# Altium integrated library Freescale Semiconductor DSC.IntLib: 124 symbols (part 7 of 7)
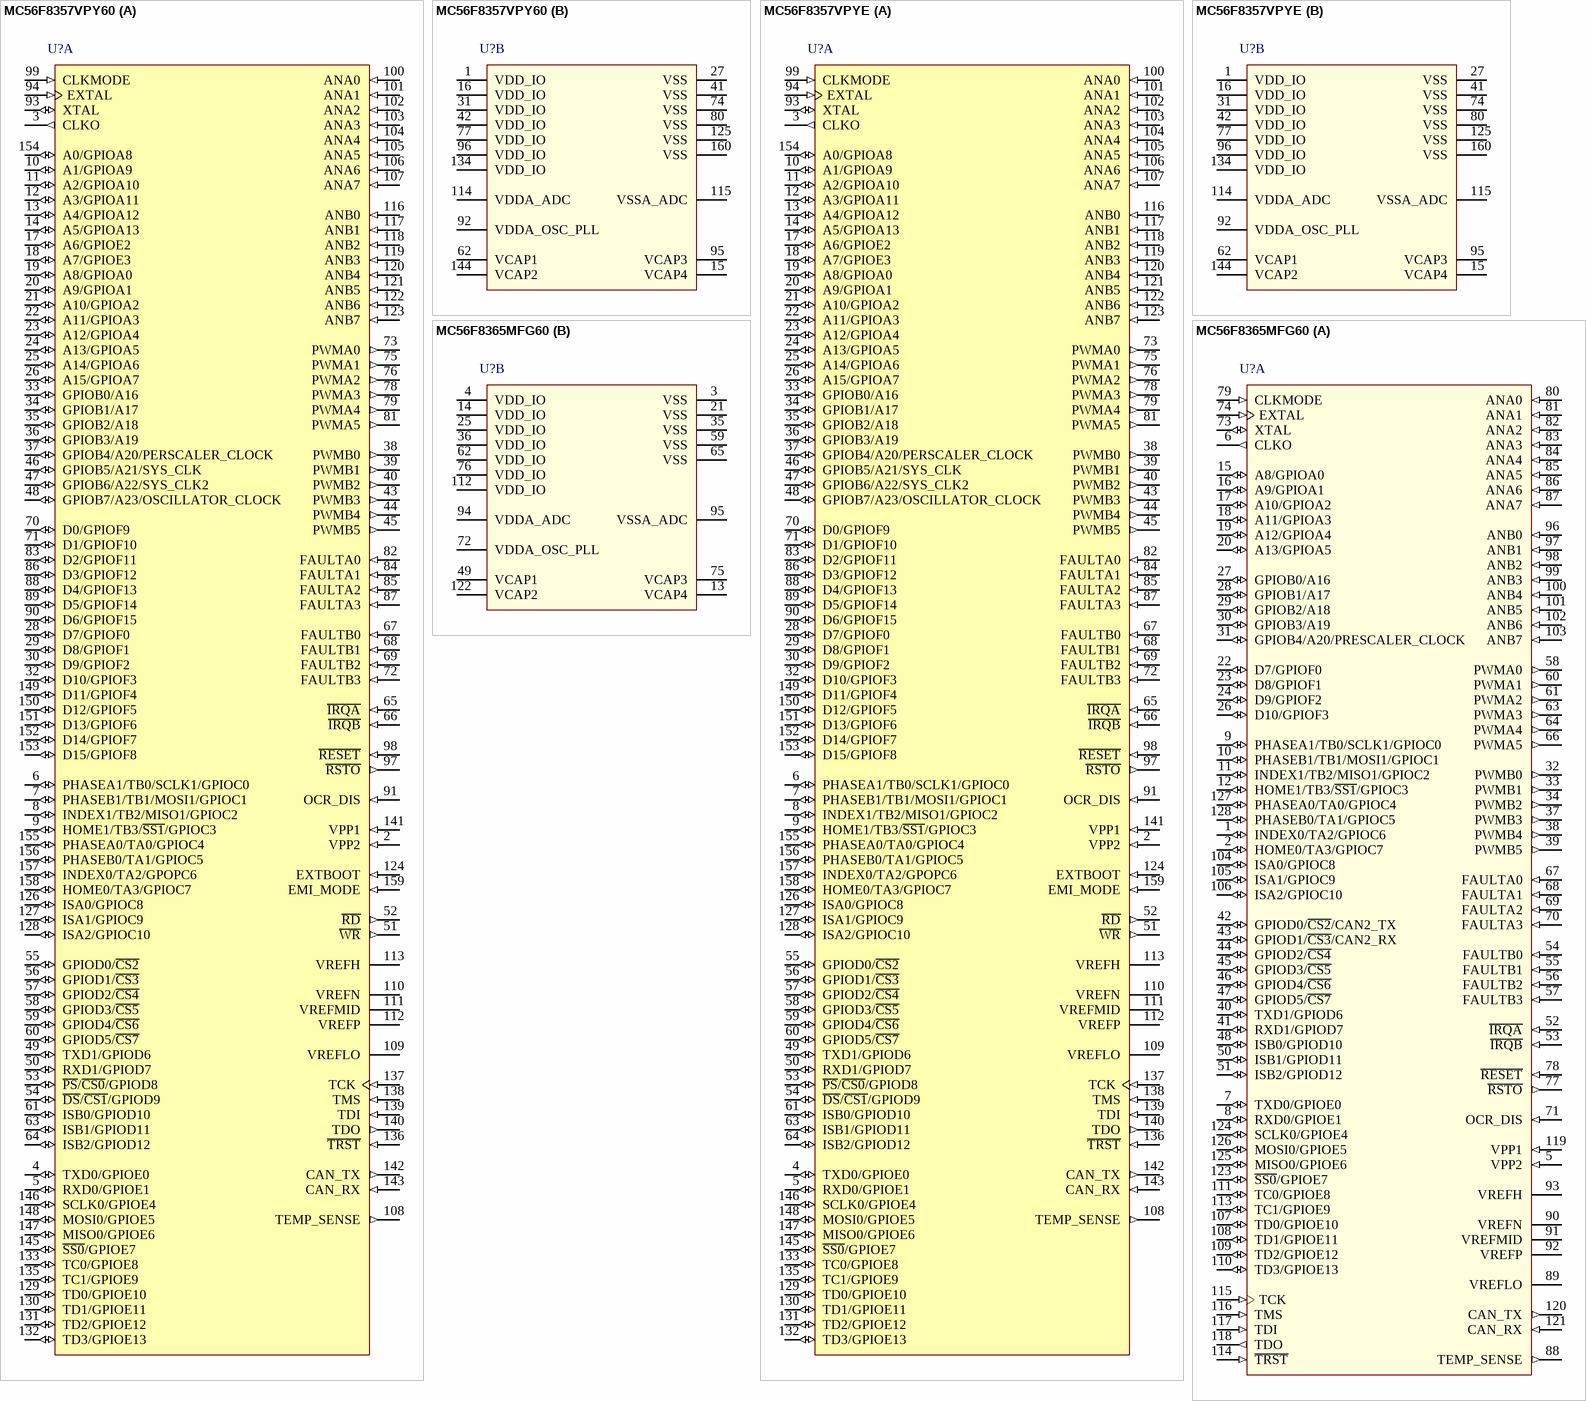
[diagram p40: symbols MC56F8357VPY60 to MC56F8365MFG60]

## MC56F8357VPYE
designator U?
16-Bit Digital Signal Controller, 56800E Family,  60 MHz, 20KB RAM, 256KB Flash, 3.0–3.6 V, -40° to + 105° C, 160-Pin LQFP; DatasheetVersion: rev15, Jan-2007; PackageVersion: rev7, Jan-2002; PackageReference: 1259-01; PackageDescription: 160-Pin Thin Quad Flat Pack 0.5 mm Pitch; ComponentLink1Description: Manufacturer URL; ComponentLink1URL: http://www.freescale.com/; ComponentLink2Description: Datasheet; ComponentLink2URL: http://cache.freescale.com/files/dsp/doc/data_sheet/MC56F8357.pdf?fpsp=1
footprint 1259-01_N (Thin QFP, 160-Leads, Body 24x24mm, Pitch 0.5mm, IPC Medium Density)
footprint 1259-01_L (Thin QFP, 160-Leads, Body 24x24mm, Pitch 0.5mm, IPC High Density)
footprint 1259-01_M (Thin QFP, 160-Leads, Body 24x24mm, Pitch 0.5mm, IPC Low Density)
part A pins: 2 VPP2 (in), 3 CLKO (out), 4 TXD0/GPIOE0 (io), 5 RXD0/GPIOE1 (io), 6 PHASEA1/TB0/SCLK1/GPIOC0 (io), 7 PHASEB1/TB1/MOSI1/GPIOC1 (io), 8 INDEX1/TB2/MISO1/GPIOC2 (io), 9 HOME1/TB3/~{SS1}/GPIOC3 (io), 10 A1/GPIOA9 (io), 11 A2/GPIOA10 (io), 12 A3/GPIOA11 (io), 13 A4/GPIOA12 (io), 14 A5/GPIOA13 (io), 17 A6/GPIOE2 (io), 18 A7/GPIOE3 (io), 19 A8/GPIOA0 (io), 20 A9/GPIOA1 (io), 21 A10/GPIOA2 (io), 22 A11/GPIOA3 (io), 23 A12/GPIOA4 (io), 24 A13/GPIOA5 (io), 25 A14/GPIOA6 (io), 26 A15/GPIOA7 (io), 28 D7/GPIOF0 (io), 29 D8/GPIOF1 (io), 30 D9/GPIOF2 (io), 32 D10/GPIOF3 (io), 33 GPIOB0/A16 (io), 34 GPIOB1/A17 (io), 35 GPIOB2/A18 (io), 36 GPIOB3/A19 (io), 37 GPIOB4/A20/PERSCALER_CLOCK (io), 38 PWMB0 (out), 39 PWMB1 (out), 40 PWMB2 (out), 43 PWMB3 (out), 44 PWMB4 (out), 45 PWMB5 (out), 46 GPIOB5/A21/SYS_CLK (io), 47 GPIOB6/A22/SYS_CLK2 (io), 48 GPIOB7/A23/OSCILLATOR_CLOCK (io), 49 TXD1/GPIOD6 (io), 50 RXD1/GPIOD7 (io), 51 ~{WR} (out), 52 ~{RD} (out), 53 ~{PS}/~{CS0}/GPIOD8 (io), 54 ~{DS}/~{CS1}/GPIOD9 (io), 55 GPIOD0/~{CS2} (io), 56 GPIOD1/~{CS3} (io), 57 GPIOD2/~{CS4} (io), 58 GPIOD3/~{CS5} (io), 59 GPIOD4/~{CS6} (io), 60 GPIOD5/~{CS7} (io), 61 ISB0/GPIOD10 (io), 63 ISB1/GPIOD11 (io), 64 ISB2/GPIOD12 (io), 65 ~{IRQA} (in), 66 ~{IRQB} (in), 67 FAULTB0 (in), 68 FAULTB1 (in), 69 FAULTB2 (in), 70 D0/GPIOF9 (io), 71 D1/GPIOF10 (io), 72 FAULTB3 (in), 73 PWMA0 (out), 75 PWMA1 (out), 76 PWMA2 (out), 78 PWMA3 (out), 79 PWMA4 (out), 81 PWMA5 (out), 82 FAULTA0 (in), 83 D2/GPIOF11 (io), 84 FAULTA1 (in), 85 FAULTA2 (in), 86 D3/GPIOF12 (io), 87 FAULTA3 (in), 88 D4/GPIOF13 (io), 89 D5/GPIOF14 (io), 90 D6/GPIOF15 (io), 91 OCR_DIS (in), 93 XTAL (io), 94 EXTAL (in), 97 ~{RSTO} (out), 98 ~{RESET} (in), 99 CLKMODE (in), 100 ANA0 (in), 101 ANA1 (in), 102 ANA2 (in), 103 ANA3 (in), 104 ANA4 (in), 105 ANA5 (in), 106 ANA6 (in), 107 ANA7 (in), 108 TEMP_SENSE (out), 109 VREFLO (power), 110 VREFN (power), 111 VREFMID (power), 112 VREFP (power), 113 VREFH (power), 116 ANB0 (in), 117 ANB1 (in), 118 ANB2 (in), 119 ANB3 (in), 120 ANB4 (in), 121 ANB5 (in), 122 ANB6 (in), 123 ANB7 (in), 124 EXTBOOT (in), 126 ISA0/GPIOC8 (io), 127 ISA1/GPIOC9 (io), 128 ISA2/GPIOC10 (io), 129 TD0/GPIOE10 (io), 130 TD1/GPIOE11 (io), 131 TD2/GPIOE12 (io), 132 TD3/GPIOE13 (io), 133 TC0/GPIOE8 (io), 135 TC1/GPIOE9 (io), 136 ~{TRST} (in), 137 TCK (in), 138 TMS (in), 139 TDI (in), 140 TDO (out), 141 VPP1 (in), 142 CAN_TX (out), 143 CAN_RX (in), 145 ~{SS0}/GPIOE7 (io), 146 SCLK0/GPIOE4 (io), 147 MISO0/GPIOE6 (io), 148 MOSI0/GPIOE5 (io), 149 D11/GPIOF4 (io), 150 D12/GPIOF5 (io), 151 D13/GPIOF6 (io), 152 D14/GPIOF7 (io), 153 D15/GPIOF8 (io), 154 A0/GPIOA8 (io), 155 PHASEA0/TA0/GPIOC4 (io), 156 PHASEB0/TA1/GPIOC5 (io), 157 INDEX0/TA2/GPOPC6 (io), 158 HOME0/TA3/GPIOC7 (io), 159 EMI_MODE (in)
part B pins: 1 VDD_IO (power), 15 VCAP4 (power), 16 VDD_IO (power), 27 VSS (power), 31 VDD_IO (power), 41 VSS (power), 42 VDD_IO (power), 62 VCAP1 (power), 74 VSS (power), 77 VDD_IO (power), 80 VSS (power), 92 VDDA_OSC_PLL (power), 95 VCAP3 (power), 96 VDD_IO (power), 114 VDDA_ADC (power), 115 VSSA_ADC (power), 125 VSS (power), 134 VDD_IO (power), 144 VCAP2 (power), 160 VSS (power)

## MC56F8365MFG60
designator U?
16-Bit Digital Signal Controller, 56800E Family,  60 MHz, 36KB RAM, 512KB Flash, 3.0–3.6 V, -40° to + 125° C, 128-Pin LQFP; DatasheetVersion: rev8, Nov-2009; PackageVersion: 12/12/1994; PackageReference: 1129-01; PackageDescription: 128-Pin Thin Quad Flat Pack Rectangular 0.5 mm Pitch; ComponentLink1Description: Manufacturer URL; ComponentLink1URL: http://www.freescale.com/; ComponentLink2Description: Datasheet; ComponentLink2URL: http://cache.freescale.com/files/dsp/doc/data_sheet/MC56F8365.pdf?fpsp=1
footprint 1129-01_N (Thin QFP, 128-Leads, Body 20x14 mm, Pitch 0.5mm, IPC Medium Density)
footprint 1129-01_L (Thin QFP, 128-Leads, Body 20x14 mm, Pitch 0.5mm, IPC High Density)
footprint 1129-01_M (Thin QFP, 128-Leads, Body 20x14 mm, Pitch 0.5mm, IPC Low Density)
part A pins: 1 INDEX0/TA2/GPIOC6 (io), 2 HOME0/TA3/GPIOC7 (io), 5 VPP2 (in), 6 CLKO (out), 7 TXD0/GPIOE0 (io), 8 RXD0/GPIOE1 (io), 9 PHASEA1/TB0/SCLK1/GPIOC0 (io), 10 PHASEB1/TB1/MOSI1/GPIOC1 (io), 11 INDEX1/TB2/MISO1/GPIOC2 (io), 12 HOME1/TB3/~{SS1}/GPIOC3 (io), 15 A8/GPIOA0 (io), 16 A9/GPIOA1 (io), 17 A10/GPIOA2 (io), 18 A11/GPIOA3 (io), 19 A12/GPIOA4 (io), 20 A13/GPIOA5 (io), 22 D7/GPIOF0 (io), 23 D8/GPIOF1 (io), 24 D9/GPIOF2 (io), 26 D10/GPIOF3 (io), 27 GPIOB0/A16 (io), 28 GPIOB1/A17 (io), 29 GPIOB2/A18 (io), 30 GPIOB3/A19 (io), 31 GPIOB4/A20/PRESCALER_CLOCK (io), 32 PWMB0 (out), 33 PWMB1 (out), 34 PWMB2 (out), 37 PWMB3 (out), 38 PWMB4 (out), 39 PWMB5 (out), 40 TXD1/GPIOD6 (io), 41 RXD1/GPIOD7 (io), 42 GPIOD0/~{CS2}/CAN2_TX (io), 43 GPIOD1/~{CS3}/CAN2_RX (io), 44 GPIOD2/~{CS4} (io), 45 GPIOD3/~{CS5} (io), 46 GPIOD4/~{CS6} (io), 47 GPIOD5/~{CS7} (io), 48 ISB0/GPIOD10 (io), 50 ISB1/GPIOD11 (io), 51 ISB2/GPIOD12 (io), 52 ~{IRQA} (in), 53 ~{IRQB} (in), 54 FAULTB0 (in), 55 FAULTB1 (in), 56 FAULTB2 (in), 57 FAULTB3 (in), 58 PWMA0 (out), 60 PWMA1 (out), 61 PWMA2 (out), 63 PWMA3 (out), 64 PWMA4 (out), 66 PWMA5 (out), 67 FAULTA0 (in), 68 FAULTA1 (in), 69 FAULTA2 (in), 70 FAULTA3 (in), 71 OCR_DIS (in), 73 XTAL (io), 74 EXTAL (in), 77 ~{RSTO} (out), 78 ~{RESET} (in), 79 CLKMODE (in), 80 ANA0 (in), 81 ANA1 (in), 82 ANA2 (in), 83 ANA3 (in), 84 ANA4 (in), 85 ANA5 (in), 86 ANA6 (in), 87 ANA7 (in), 88 TEMP_SENSE (out), 89 VREFLO (power), 90 VREFN (power), 91 VREFMID (power), 92 VREFP (power), 93 VREFH (power), 96 ANB0 (in), 97 ANB1 (in), 98 ANB2 (in), 99 ANB3 (in), 100 ANB4 (in), 101 ANB5 (in), 102 ANB6 (in), 103 ANB7 (in), 104 ISA0/GPIOC8 (io), 105 ISA1/GPIOC9 (io), 106 ISA2/GPIOC10 (io), 107 TD0/GPIOE10 (io), 108 TD1/GPIOE11 (io), 109 TD2/GPIOE12 (io), 110 TD3/GPIOE13 (io), 111 TC0/GPIOE8 (io), 113 TC1/GPIOE9 (io), 114 ~{TRST} (in), 115 TCK (in), 116 TMS (in), 117 TDI (in), 118 TDO (out), 119 VPP1 (in), 120 CAN_TX (out), 121 CAN_RX (in), 123 ~{SS0}/GPIOE7 (io), 124 SCLK0/GPIOE4 (io), 125 MISO0/GPIOE6 (io), 126 MOSI0/GPIOE5 (io), 127 PHASEA0/TA0/GPIOC4 (io), 128 PHASEB0/TA1/GPIOC5 (io)
part B pins: 3 VSS (power), 4 VDD_IO (power), 13 VCAP4 (power), 14 VDD_IO (power), 21 VSS (power), 25 VDD_IO (power), 35 VSS (power), 36 VDD_IO (power), 49 VCAP1 (power), 59 VSS (power), 62 VDD_IO (power), 65 VSS (power), 72 VDDA_OSC_PLL (power), 75 VCAP3 (power), 76 VDD_IO (power), 94 VDDA_ADC (power), 95 VSSA_ADC (power), 112 VDD_IO (power), 122 VCAP2 (power)

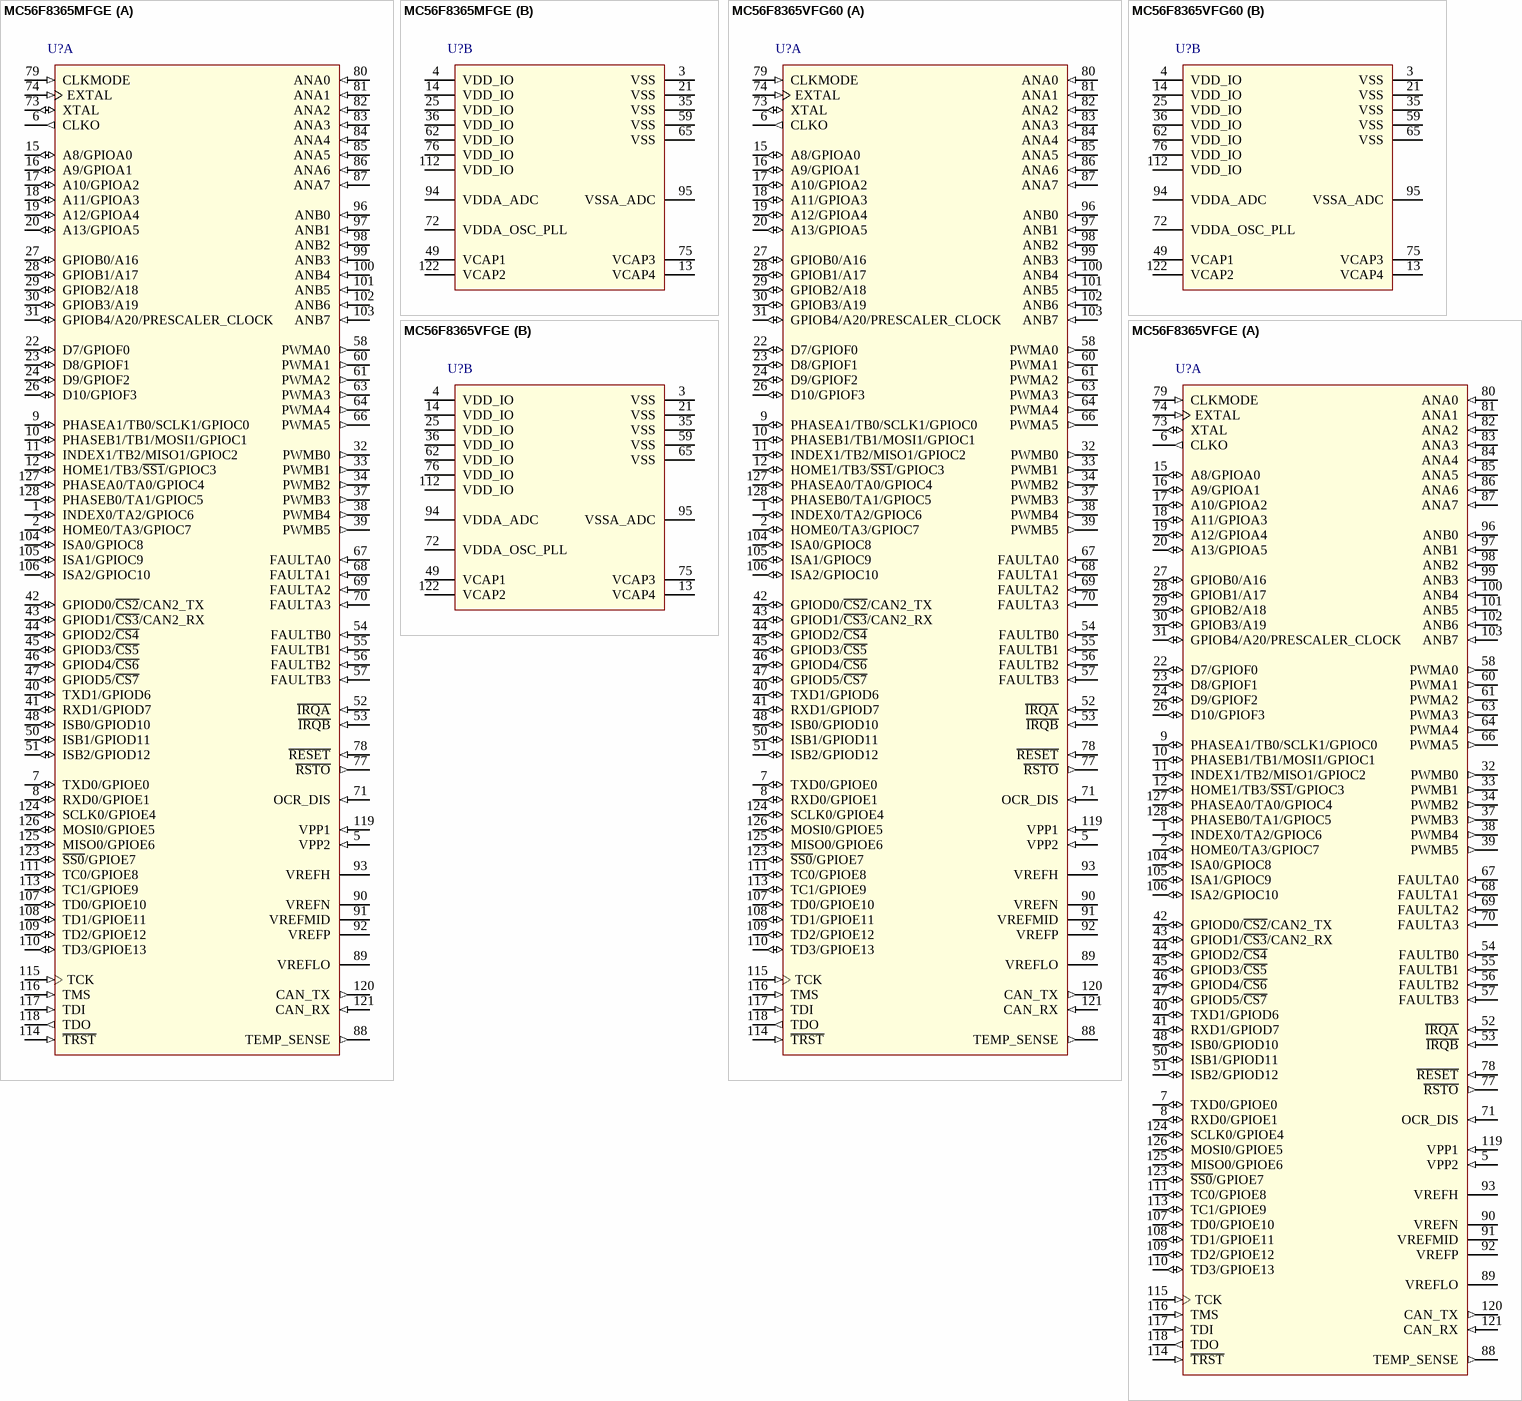
[diagram p30: symbols MC56F8365MFGE to MC56F8365VFGE]

## MC56F8365MFGE
designator U?
16-Bit Digital Signal Controller, 56800E Family,  60 MHz, 36KB RAM, 512KB Flash, 3.0–3.6 V, -40° to + 125° C, 128-Pin LQFP; DatasheetVersion: rev8, Nov-2009; PackageVersion: 12/12/1994; PackageReference: 1129-01; PackageDescription: 128-Pin Thin Quad Flat Pack Rectangular 0.5 mm Pitch; ComponentLink1Description: Manufacturer URL; ComponentLink1URL: http://www.freescale.com/; ComponentLink2Description: Datasheet; ComponentLink2URL: http://cache.freescale.com/files/dsp/doc/data_sheet/MC56F8365.pdf?fpsp=1
footprint 1129-01_N (Thin QFP, 128-Leads, Body 20x14 mm, Pitch 0.5mm, IPC Medium Density)
footprint 1129-01_L (Thin QFP, 128-Leads, Body 20x14 mm, Pitch 0.5mm, IPC High Density)
footprint 1129-01_M (Thin QFP, 128-Leads, Body 20x14 mm, Pitch 0.5mm, IPC Low Density)
part A pins: 1 INDEX0/TA2/GPIOC6 (io), 2 HOME0/TA3/GPIOC7 (io), 5 VPP2 (in), 6 CLKO (out), 7 TXD0/GPIOE0 (io), 8 RXD0/GPIOE1 (io), 9 PHASEA1/TB0/SCLK1/GPIOC0 (io), 10 PHASEB1/TB1/MOSI1/GPIOC1 (io), 11 INDEX1/TB2/MISO1/GPIOC2 (io), 12 HOME1/TB3/~{SS1}/GPIOC3 (io), 15 A8/GPIOA0 (io), 16 A9/GPIOA1 (io), 17 A10/GPIOA2 (io), 18 A11/GPIOA3 (io), 19 A12/GPIOA4 (io), 20 A13/GPIOA5 (io), 22 D7/GPIOF0 (io), 23 D8/GPIOF1 (io), 24 D9/GPIOF2 (io), 26 D10/GPIOF3 (io), 27 GPIOB0/A16 (io), 28 GPIOB1/A17 (io), 29 GPIOB2/A18 (io), 30 GPIOB3/A19 (io), 31 GPIOB4/A20/PRESCALER_CLOCK (io), 32 PWMB0 (out), 33 PWMB1 (out), 34 PWMB2 (out), 37 PWMB3 (out), 38 PWMB4 (out), 39 PWMB5 (out), 40 TXD1/GPIOD6 (io), 41 RXD1/GPIOD7 (io), 42 GPIOD0/~{CS2}/CAN2_TX (io), 43 GPIOD1/~{CS3}/CAN2_RX (io), 44 GPIOD2/~{CS4} (io), 45 GPIOD3/~{CS5} (io), 46 GPIOD4/~{CS6} (io), 47 GPIOD5/~{CS7} (io), 48 ISB0/GPIOD10 (io), 50 ISB1/GPIOD11 (io), 51 ISB2/GPIOD12 (io), 52 ~{IRQA} (in), 53 ~{IRQB} (in), 54 FAULTB0 (in), 55 FAULTB1 (in), 56 FAULTB2 (in), 57 FAULTB3 (in), 58 PWMA0 (out), 60 PWMA1 (out), 61 PWMA2 (out), 63 PWMA3 (out), 64 PWMA4 (out), 66 PWMA5 (out), 67 FAULTA0 (in), 68 FAULTA1 (in), 69 FAULTA2 (in), 70 FAULTA3 (in), 71 OCR_DIS (in), 73 XTAL (io), 74 EXTAL (in), 77 ~{RSTO} (out), 78 ~{RESET} (in), 79 CLKMODE (in), 80 ANA0 (in), 81 ANA1 (in), 82 ANA2 (in), 83 ANA3 (in), 84 ANA4 (in), 85 ANA5 (in), 86 ANA6 (in), 87 ANA7 (in), 88 TEMP_SENSE (out), 89 VREFLO (power), 90 VREFN (power), 91 VREFMID (power), 92 VREFP (power), 93 VREFH (power), 96 ANB0 (in), 97 ANB1 (in), 98 ANB2 (in), 99 ANB3 (in), 100 ANB4 (in), 101 ANB5 (in), 102 ANB6 (in), 103 ANB7 (in), 104 ISA0/GPIOC8 (io), 105 ISA1/GPIOC9 (io), 106 ISA2/GPIOC10 (io), 107 TD0/GPIOE10 (io), 108 TD1/GPIOE11 (io), 109 TD2/GPIOE12 (io), 110 TD3/GPIOE13 (io), 111 TC0/GPIOE8 (io), 113 TC1/GPIOE9 (io), 114 ~{TRST} (in), 115 TCK (in), 116 TMS (in), 117 TDI (in), 118 TDO (out), 119 VPP1 (in), 120 CAN_TX (out), 121 CAN_RX (in), 123 ~{SS0}/GPIOE7 (io), 124 SCLK0/GPIOE4 (io), 125 MISO0/GPIOE6 (io), 126 MOSI0/GPIOE5 (io), 127 PHASEA0/TA0/GPIOC4 (io), 128 PHASEB0/TA1/GPIOC5 (io)
part B pins: 3 VSS (power), 4 VDD_IO (power), 13 VCAP4 (power), 14 VDD_IO (power), 21 VSS (power), 25 VDD_IO (power), 35 VSS (power), 36 VDD_IO (power), 49 VCAP1 (power), 59 VSS (power), 62 VDD_IO (power), 65 VSS (power), 72 VDDA_OSC_PLL (power), 75 VCAP3 (power), 76 VDD_IO (power), 94 VDDA_ADC (power), 95 VSSA_ADC (power), 112 VDD_IO (power), 122 VCAP2 (power)

## MC56F8365VFG60
designator U?
16-Bit Digital Signal Controller, 56800E Family,  60 MHz, 36KB RAM, 512KB Flash, 3.0–3.6 V, -40° to + 105° C, 128-Pin LQFP; DatasheetVersion: rev8, Nov-2009; PackageVersion: 12/12/1994; PackageReference: 1129-01; PackageDescription: 128-Pin Thin Quad Flat Pack Rectangular 0.5 mm Pitch; ComponentLink1Description: Manufacturer URL; ComponentLink1URL: http://www.freescale.com/; ComponentLink2Description: Datasheet; ComponentLink2URL: http://cache.freescale.com/files/dsp/doc/data_sheet/MC56F8365.pdf?fpsp=1
footprint 1129-01_N (Thin QFP, 128-Leads, Body 20x14 mm, Pitch 0.5mm, IPC Medium Density)
footprint 1129-01_L (Thin QFP, 128-Leads, Body 20x14 mm, Pitch 0.5mm, IPC High Density)
footprint 1129-01_M (Thin QFP, 128-Leads, Body 20x14 mm, Pitch 0.5mm, IPC Low Density)
part A pins: 1 INDEX0/TA2/GPIOC6 (io), 2 HOME0/TA3/GPIOC7 (io), 5 VPP2 (in), 6 CLKO (out), 7 TXD0/GPIOE0 (io), 8 RXD0/GPIOE1 (io), 9 PHASEA1/TB0/SCLK1/GPIOC0 (io), 10 PHASEB1/TB1/MOSI1/GPIOC1 (io), 11 INDEX1/TB2/MISO1/GPIOC2 (io), 12 HOME1/TB3/~{SS1}/GPIOC3 (io), 15 A8/GPIOA0 (io), 16 A9/GPIOA1 (io), 17 A10/GPIOA2 (io), 18 A11/GPIOA3 (io), 19 A12/GPIOA4 (io), 20 A13/GPIOA5 (io), 22 D7/GPIOF0 (io), 23 D8/GPIOF1 (io), 24 D9/GPIOF2 (io), 26 D10/GPIOF3 (io), 27 GPIOB0/A16 (io), 28 GPIOB1/A17 (io), 29 GPIOB2/A18 (io), 30 GPIOB3/A19 (io), 31 GPIOB4/A20/PRESCALER_CLOCK (io), 32 PWMB0 (out), 33 PWMB1 (out), 34 PWMB2 (out), 37 PWMB3 (out), 38 PWMB4 (out), 39 PWMB5 (out), 40 TXD1/GPIOD6 (io), 41 RXD1/GPIOD7 (io), 42 GPIOD0/~{CS2}/CAN2_TX (io), 43 GPIOD1/~{CS3}/CAN2_RX (io), 44 GPIOD2/~{CS4} (io), 45 GPIOD3/~{CS5} (io), 46 GPIOD4/~{CS6} (io), 47 GPIOD5/~{CS7} (io), 48 ISB0/GPIOD10 (io), 50 ISB1/GPIOD11 (io), 51 ISB2/GPIOD12 (io), 52 ~{IRQA} (in), 53 ~{IRQB} (in), 54 FAULTB0 (in), 55 FAULTB1 (in), 56 FAULTB2 (in), 57 FAULTB3 (in), 58 PWMA0 (out), 60 PWMA1 (out), 61 PWMA2 (out), 63 PWMA3 (out), 64 PWMA4 (out), 66 PWMA5 (out), 67 FAULTA0 (in), 68 FAULTA1 (in), 69 FAULTA2 (in), 70 FAULTA3 (in), 71 OCR_DIS (in), 73 XTAL (io), 74 EXTAL (in), 77 ~{RSTO} (out), 78 ~{RESET} (in), 79 CLKMODE (in), 80 ANA0 (in), 81 ANA1 (in), 82 ANA2 (in), 83 ANA3 (in), 84 ANA4 (in), 85 ANA5 (in), 86 ANA6 (in), 87 ANA7 (in), 88 TEMP_SENSE (out), 89 VREFLO (power), 90 VREFN (power), 91 VREFMID (power), 92 VREFP (power), 93 VREFH (power), 96 ANB0 (in), 97 ANB1 (in), 98 ANB2 (in), 99 ANB3 (in), 100 ANB4 (in), 101 ANB5 (in), 102 ANB6 (in), 103 ANB7 (in), 104 ISA0/GPIOC8 (io), 105 ISA1/GPIOC9 (io), 106 ISA2/GPIOC10 (io), 107 TD0/GPIOE10 (io), 108 TD1/GPIOE11 (io), 109 TD2/GPIOE12 (io), 110 TD3/GPIOE13 (io), 111 TC0/GPIOE8 (io), 113 TC1/GPIOE9 (io), 114 ~{TRST} (in), 115 TCK (in), 116 TMS (in), 117 TDI (in), 118 TDO (out), 119 VPP1 (in), 120 CAN_TX (out), 121 CAN_RX (in), 123 ~{SS0}/GPIOE7 (io), 124 SCLK0/GPIOE4 (io), 125 MISO0/GPIOE6 (io), 126 MOSI0/GPIOE5 (io), 127 PHASEA0/TA0/GPIOC4 (io), 128 PHASEB0/TA1/GPIOC5 (io)
part B pins: 3 VSS (power), 4 VDD_IO (power), 13 VCAP4 (power), 14 VDD_IO (power), 21 VSS (power), 25 VDD_IO (power), 35 VSS (power), 36 VDD_IO (power), 49 VCAP1 (power), 59 VSS (power), 62 VDD_IO (power), 65 VSS (power), 72 VDDA_OSC_PLL (power), 75 VCAP3 (power), 76 VDD_IO (power), 94 VDDA_ADC (power), 95 VSSA_ADC (power), 112 VDD_IO (power), 122 VCAP2 (power)

## MC56F8365VFGE
designator U?
16-Bit Digital Signal Controller, 56800E Family,  60 MHz, 36KB RAM, 512KB Flash, 3.0–3.6 V, -40° to + 105° C, 128-Pin LQFP; DatasheetVersion: rev8, Nov-2009; PackageVersion: 12/12/1994; PackageReference: 1129-01; PackageDescription: 128-Pin Thin Quad Flat Pack Rectangular 0.5 mm Pitch; ComponentLink1Description: Manufacturer URL; ComponentLink1URL: http://www.freescale.com/; ComponentLink2Description: Datasheet; ComponentLink2URL: http://cache.freescale.com/files/dsp/doc/data_sheet/MC56F8365.pdf?fpsp=1
footprint 1129-01_N (Thin QFP, 128-Leads, Body 20x14 mm, Pitch 0.5mm, IPC Medium Density)
footprint 1129-01_L (Thin QFP, 128-Leads, Body 20x14 mm, Pitch 0.5mm, IPC High Density)
footprint 1129-01_M (Thin QFP, 128-Leads, Body 20x14 mm, Pitch 0.5mm, IPC Low Density)
part A pins: 1 INDEX0/TA2/GPIOC6 (io), 2 HOME0/TA3/GPIOC7 (io), 5 VPP2 (in), 6 CLKO (out), 7 TXD0/GPIOE0 (io), 8 RXD0/GPIOE1 (io), 9 PHASEA1/TB0/SCLK1/GPIOC0 (io), 10 PHASEB1/TB1/MOSI1/GPIOC1 (io), 11 INDEX1/TB2/MISO1/GPIOC2 (io), 12 HOME1/TB3/~{SS1}/GPIOC3 (io), 15 A8/GPIOA0 (io), 16 A9/GPIOA1 (io), 17 A10/GPIOA2 (io), 18 A11/GPIOA3 (io), 19 A12/GPIOA4 (io), 20 A13/GPIOA5 (io), 22 D7/GPIOF0 (io), 23 D8/GPIOF1 (io), 24 D9/GPIOF2 (io), 26 D10/GPIOF3 (io), 27 GPIOB0/A16 (io), 28 GPIOB1/A17 (io), 29 GPIOB2/A18 (io), 30 GPIOB3/A19 (io), 31 GPIOB4/A20/PRESCALER_CLOCK (io), 32 PWMB0 (out), 33 PWMB1 (out), 34 PWMB2 (out), 37 PWMB3 (out), 38 PWMB4 (out), 39 PWMB5 (out), 40 TXD1/GPIOD6 (io), 41 RXD1/GPIOD7 (io), 42 GPIOD0/~{CS2}/CAN2_TX (io), 43 GPIOD1/~{CS3}/CAN2_RX (io), 44 GPIOD2/~{CS4} (io), 45 GPIOD3/~{CS5} (io), 46 GPIOD4/~{CS6} (io), 47 GPIOD5/~{CS7} (io), 48 ISB0/GPIOD10 (io), 50 ISB1/GPIOD11 (io), 51 ISB2/GPIOD12 (io), 52 ~{IRQA} (in), 53 ~{IRQB} (in), 54 FAULTB0 (in), 55 FAULTB1 (in), 56 FAULTB2 (in), 57 FAULTB3 (in), 58 PWMA0 (out), 60 PWMA1 (out), 61 PWMA2 (out), 63 PWMA3 (out), 64 PWMA4 (out), 66 PWMA5 (out), 67 FAULTA0 (in), 68 FAULTA1 (in), 69 FAULTA2 (in), 70 FAULTA3 (in), 71 OCR_DIS (in), 73 XTAL (io), 74 EXTAL (in), 77 ~{RSTO} (out), 78 ~{RESET} (in), 79 CLKMODE (in), 80 ANA0 (in), 81 ANA1 (in), 82 ANA2 (in), 83 ANA3 (in), 84 ANA4 (in), 85 ANA5 (in), 86 ANA6 (in), 87 ANA7 (in), 88 TEMP_SENSE (out), 89 VREFLO (power), 90 VREFN (power), 91 VREFMID (power), 92 VREFP (power), 93 VREFH (power), 96 ANB0 (in), 97 ANB1 (in), 98 ANB2 (in), 99 ANB3 (in), 100 ANB4 (in), 101 ANB5 (in), 102 ANB6 (in), 103 ANB7 (in), 104 ISA0/GPIOC8 (io), 105 ISA1/GPIOC9 (io), 106 ISA2/GPIOC10 (io), 107 TD0/GPIOE10 (io), 108 TD1/GPIOE11 (io), 109 TD2/GPIOE12 (io), 110 TD3/GPIOE13 (io), 111 TC0/GPIOE8 (io), 113 TC1/GPIOE9 (io), 114 ~{TRST} (in), 115 TCK (in), 116 TMS (in), 117 TDI (in), 118 TDO (out), 119 VPP1 (in), 120 CAN_TX (out), 121 CAN_RX (in), 123 ~{SS0}/GPIOE7 (io), 124 SCLK0/GPIOE4 (io), 125 MISO0/GPIOE6 (io), 126 MOSI0/GPIOE5 (io), 127 PHASEA0/TA0/GPIOC4 (io), 128 PHASEB0/TA1/GPIOC5 (io)
part B pins: 3 VSS (power), 4 VDD_IO (power), 13 VCAP4 (power), 14 VDD_IO (power), 21 VSS (power), 25 VDD_IO (power), 35 VSS (power), 36 VDD_IO (power), 49 VCAP1 (power), 59 VSS (power), 62 VDD_IO (power), 65 VSS (power), 72 VDDA_OSC_PLL (power), 75 VCAP3 (power), 76 VDD_IO (power), 94 VDDA_ADC (power), 95 VSSA_ADC (power), 112 VDD_IO (power), 122 VCAP2 (power)

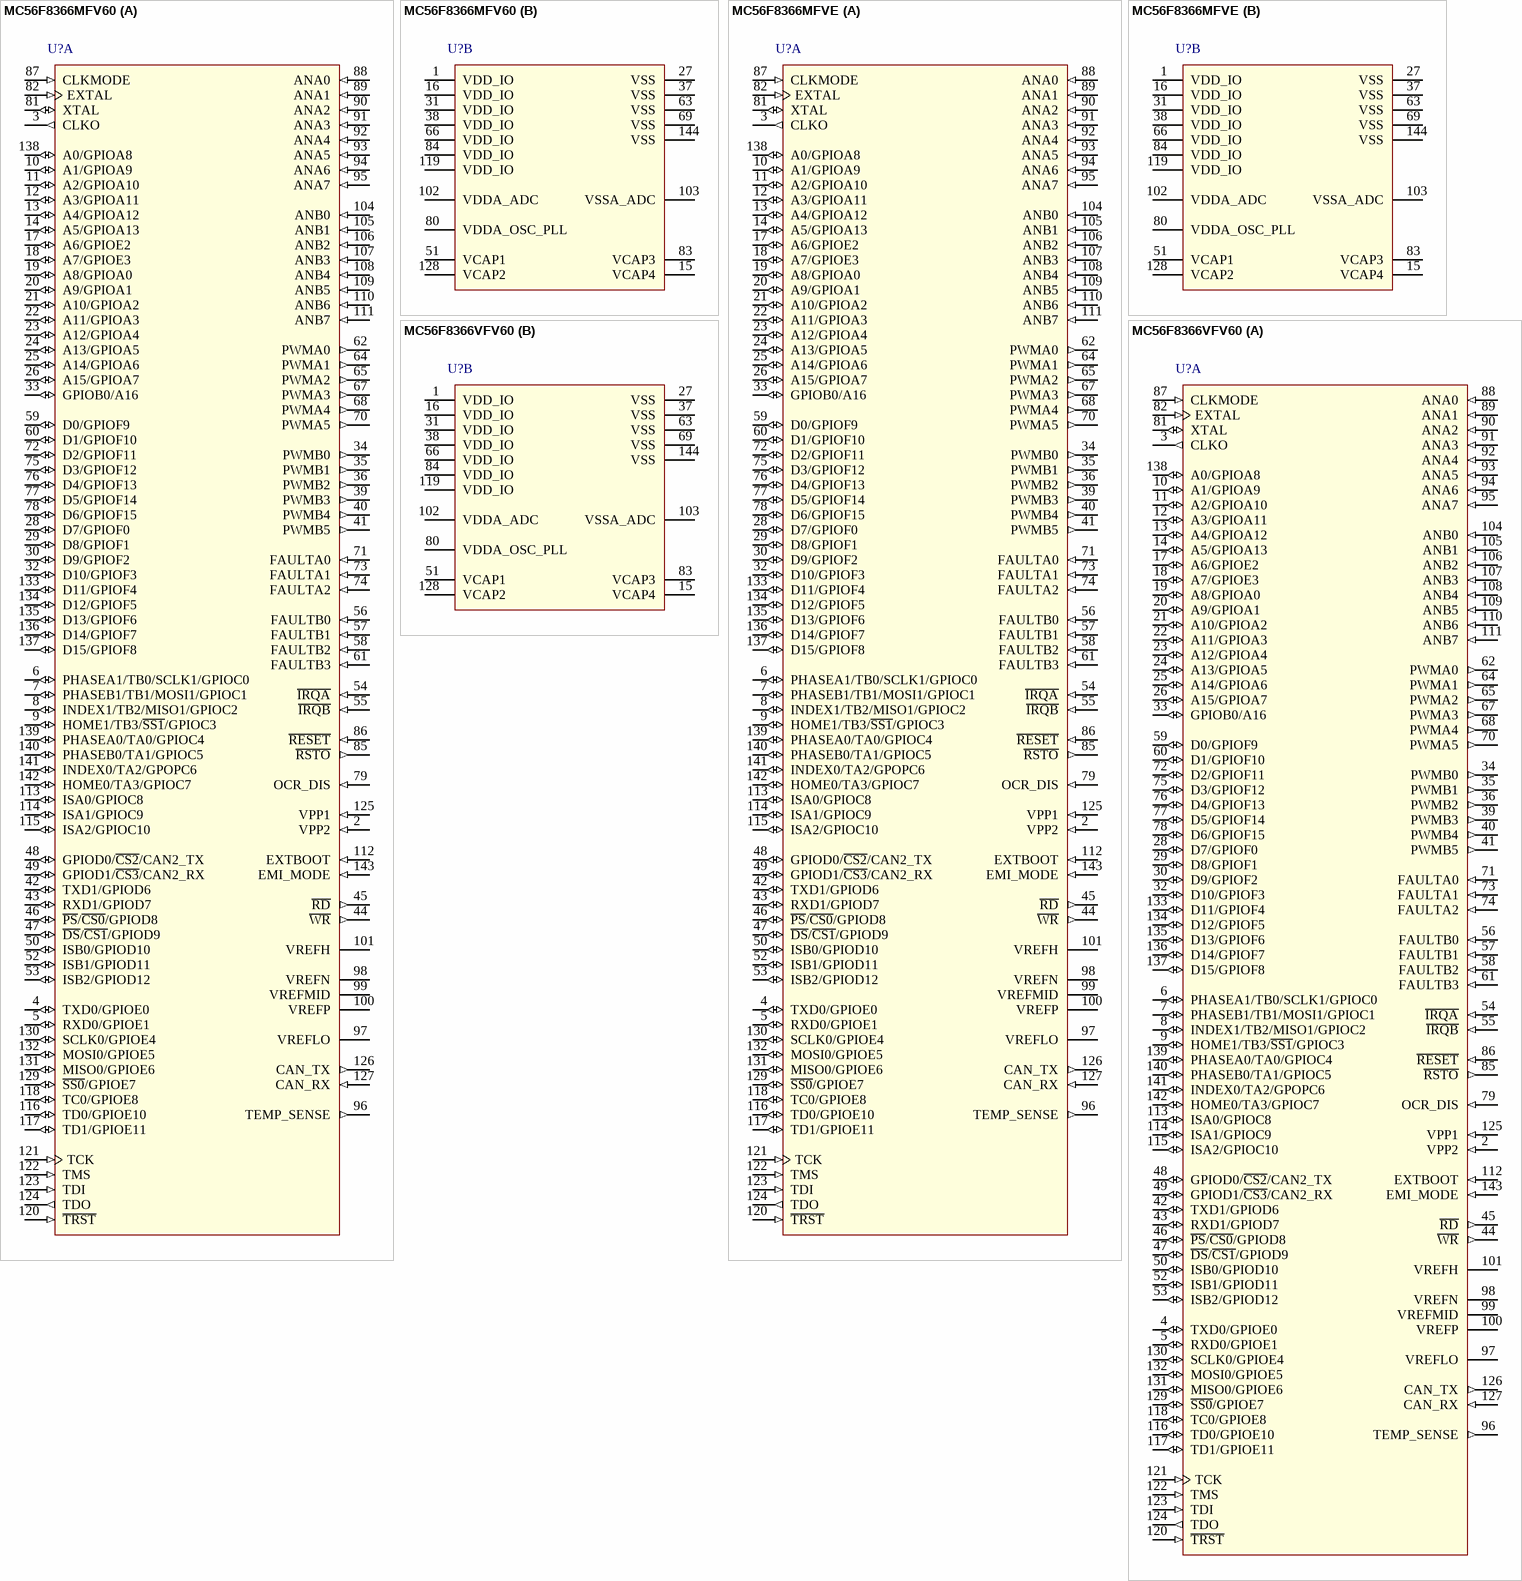
[diagram p31: symbols MC56F8366MFV60 to MC56F8366VFV60]

## MC56F8366MFV60
designator U?
16-Bit Digital Signal Controller, 56800E Family,  60 MHz, 36KB RAM, 512KB Flash, 3.0–3.6 V, -40° to + 125° C, 144-Pin LQFP; DatasheetVersion: rev7, Nov-2009; PackageVersion: revG, Nov-2009; PackageReference: 918-03; PackageDescription: 144-Pin Thin Quad Flat Pack, 20 x 20 mm Body, 0.5 mm Pitch; ComponentLink1Description: Manufacturer URL; ComponentLink1URL: http://www.freescale.com/; ComponentLink2Description: Datasheet; ComponentLink2URL: http://cache.freescale.com/files/dsp/doc/data_sheet/MC56F8366.pdf?fpsp=1
footprint 918-03_N (Thin QFP, 144-Leads, Body 20x20mm, Pitch 0.5mm, IPC Medium Density)
footprint 918-03_L (Thin QFP, 144-Leads, Body 20x20mm, Pitch 0.5mm, IPC High Density)
footprint 918-03_M (Thin QFP, 144-Leads, Body 20x20mm, Pitch 0.5mm, IPC Low Density)
part A pins: 2 VPP2 (in), 3 CLKO (out), 4 TXD0/GPIOE0 (io), 5 RXD0/GPIOE1 (io), 6 PHASEA1/TB0/SCLK1/GPIOC0 (io), 7 PHASEB1/TB1/MOSI1/GPIOC1 (io), 8 INDEX1/TB2/MISO1/GPIOC2 (io), 9 HOME1/TB3/~{SS1}/GPIOC3 (io), 10 A1/GPIOA9 (io), 11 A2/GPIOA10 (io), 12 A3/GPIOA11 (io), 13 A4/GPIOA12 (io), 14 A5/GPIOA13 (io), 17 A6/GPIOE2 (io), 18 A7/GPIOE3 (io), 19 A8/GPIOA0 (io), 20 A9/GPIOA1 (io), 21 A10/GPIOA2 (io), 22 A11/GPIOA3 (io), 23 A12/GPIOA4 (io), 24 A13/GPIOA5 (io), 25 A14/GPIOA6 (io), 26 A15/GPIOA7 (io), 28 D7/GPIOF0 (io), 29 D8/GPIOF1 (io), 30 D9/GPIOF2 (io), 32 D10/GPIOF3 (io), 33 GPIOB0/A16 (io), 34 PWMB0 (out), 35 PWMB1 (out), 36 PWMB2 (out), 39 PWMB3 (out), 40 PWMB4 (out), 41 PWMB5 (out), 42 TXD1/GPIOD6 (io), 43 RXD1/GPIOD7 (io), 44 ~{WR} (out), 45 ~{RD} (out), 46 ~{PS}/~{CS0}/GPIOD8 (io), 47 ~{DS}/~{CS1}/GPIOD9 (io), 48 GPIOD0/~{CS2}/CAN2_TX (io), 49 GPIOD1/~{CS3}/CAN2_RX (io), 50 ISB0/GPIOD10 (io), 52 ISB1/GPIOD11 (io), 53 ISB2/GPIOD12 (io), 54 ~{IRQA} (in), 55 ~{IRQB} (in), 56 FAULTB0 (in), 57 FAULTB1 (in), 58 FAULTB2 (in), 59 D0/GPIOF9 (io), 60 D1/GPIOF10 (io), 61 FAULTB3 (in), 62 PWMA0 (out), 64 PWMA1 (out), 65 PWMA2 (out), 67 PWMA3 (out), 68 PWMA4 (out), 70 PWMA5 (out), 71 FAULTA0 (in), 72 D2/GPIOF11 (io), 73 FAULTA1 (in), 74 FAULTA2 (in), 75 D3/GPIOF12 (io), 76 D4/GPIOF13 (io), 77 D5/GPIOF14 (io), 78 D6/GPIOF15 (io), 79 OCR_DIS (in), 81 XTAL (io), 82 EXTAL (in), 85 ~{RSTO} (out), 86 ~{RESET} (in), 87 CLKMODE (in), 88 ANA0 (in), 89 ANA1 (in), 90 ANA2 (in), 91 ANA3 (in), 92 ANA4 (in), 93 ANA5 (in), 94 ANA6 (in), 95 ANA7 (in), 96 TEMP_SENSE (out), 97 VREFLO (power), 98 VREFN (power), 99 VREFMID (power), 100 VREFP (power), 101 VREFH (power), 104 ANB0 (in), 105 ANB1 (in), 106 ANB2 (in), 107 ANB3 (in), 108 ANB4 (in), 109 ANB5 (in), 110 ANB6 (in), 111 ANB7 (in), 112 EXTBOOT (in), 113 ISA0/GPIOC8 (io), 114 ISA1/GPIOC9 (io), 115 ISA2/GPIOC10 (io), 116 TD0/GPIOE10 (io), 117 TD1/GPIOE11 (io), 118 TC0/GPIOE8 (io), 120 ~{TRST} (in), 121 TCK (in), 122 TMS (in), 123 TDI (in), 124 TDO (out), 125 VPP1 (in), 126 CAN_TX (out), 127 CAN_RX (in), 129 ~{SS0}/GPIOE7 (io), 130 SCLK0/GPIOE4 (io), 131 MISO0/GPIOE6 (io), 132 MOSI0/GPIOE5 (io), 133 D11/GPIOF4 (io), 134 D12/GPIOF5 (io), 135 D13/GPIOF6 (io), 136 D14/GPIOF7 (io), 137 D15/GPIOF8 (io), 138 A0/GPIOA8 (io), 139 PHASEA0/TA0/GPIOC4 (io), 140 PHASEB0/TA1/GPIOC5 (io), 141 INDEX0/TA2/GPOPC6 (io), 142 HOME0/TA3/GPIOC7 (io), 143 EMI_MODE (in)
part B pins: 1 VDD_IO (power), 15 VCAP4 (power), 16 VDD_IO (power), 27 VSS (power), 31 VDD_IO (power), 37 VSS (power), 38 VDD_IO (power), 51 VCAP1 (power), 63 VSS (power), 66 VDD_IO (power), 69 VSS (power), 80 VDDA_OSC_PLL (power), 83 VCAP3 (power), 84 VDD_IO (power), 102 VDDA_ADC (power), 103 VSSA_ADC (power), 119 VDD_IO (power), 128 VCAP2 (power), 144 VSS (power)

## MC56F8366MFVE
designator U?
16-Bit Digital Signal Controller, 56800E Family,  60 MHz, 36KB RAM, 512KB Flash, 3.0–3.6 V, -40° to + 125° C, 144-Pin LQFP; DatasheetVersion: rev7, Nov-2009; PackageVersion: revG, Nov-2009; PackageReference: 918-03; PackageDescription: 144-Pin Thin Quad Flat Pack, 20 x 20 mm Body, 0.5 mm Pitch; ComponentLink1Description: Manufacturer URL; ComponentLink1URL: http://www.freescale.com/; ComponentLink2Description: Datasheet; ComponentLink2URL: http://cache.freescale.com/files/dsp/doc/data_sheet/MC56F8366.pdf?fpsp=1
footprint 918-03_N (Thin QFP, 144-Leads, Body 20x20mm, Pitch 0.5mm, IPC Medium Density)
footprint 918-03_L (Thin QFP, 144-Leads, Body 20x20mm, Pitch 0.5mm, IPC High Density)
footprint 918-03_M (Thin QFP, 144-Leads, Body 20x20mm, Pitch 0.5mm, IPC Low Density)
part A pins: 2 VPP2 (in), 3 CLKO (out), 4 TXD0/GPIOE0 (io), 5 RXD0/GPIOE1 (io), 6 PHASEA1/TB0/SCLK1/GPIOC0 (io), 7 PHASEB1/TB1/MOSI1/GPIOC1 (io), 8 INDEX1/TB2/MISO1/GPIOC2 (io), 9 HOME1/TB3/~{SS1}/GPIOC3 (io), 10 A1/GPIOA9 (io), 11 A2/GPIOA10 (io), 12 A3/GPIOA11 (io), 13 A4/GPIOA12 (io), 14 A5/GPIOA13 (io), 17 A6/GPIOE2 (io), 18 A7/GPIOE3 (io), 19 A8/GPIOA0 (io), 20 A9/GPIOA1 (io), 21 A10/GPIOA2 (io), 22 A11/GPIOA3 (io), 23 A12/GPIOA4 (io), 24 A13/GPIOA5 (io), 25 A14/GPIOA6 (io), 26 A15/GPIOA7 (io), 28 D7/GPIOF0 (io), 29 D8/GPIOF1 (io), 30 D9/GPIOF2 (io), 32 D10/GPIOF3 (io), 33 GPIOB0/A16 (io), 34 PWMB0 (out), 35 PWMB1 (out), 36 PWMB2 (out), 39 PWMB3 (out), 40 PWMB4 (out), 41 PWMB5 (out), 42 TXD1/GPIOD6 (io), 43 RXD1/GPIOD7 (io), 44 ~{WR} (out), 45 ~{RD} (out), 46 ~{PS}/~{CS0}/GPIOD8 (io), 47 ~{DS}/~{CS1}/GPIOD9 (io), 48 GPIOD0/~{CS2}/CAN2_TX (io), 49 GPIOD1/~{CS3}/CAN2_RX (io), 50 ISB0/GPIOD10 (io), 52 ISB1/GPIOD11 (io), 53 ISB2/GPIOD12 (io), 54 ~{IRQA} (in), 55 ~{IRQB} (in), 56 FAULTB0 (in), 57 FAULTB1 (in), 58 FAULTB2 (in), 59 D0/GPIOF9 (io), 60 D1/GPIOF10 (io), 61 FAULTB3 (in), 62 PWMA0 (out), 64 PWMA1 (out), 65 PWMA2 (out), 67 PWMA3 (out), 68 PWMA4 (out), 70 PWMA5 (out), 71 FAULTA0 (in), 72 D2/GPIOF11 (io), 73 FAULTA1 (in), 74 FAULTA2 (in), 75 D3/GPIOF12 (io), 76 D4/GPIOF13 (io), 77 D5/GPIOF14 (io), 78 D6/GPIOF15 (io), 79 OCR_DIS (in), 81 XTAL (io), 82 EXTAL (in), 85 ~{RSTO} (out), 86 ~{RESET} (in), 87 CLKMODE (in), 88 ANA0 (in), 89 ANA1 (in), 90 ANA2 (in), 91 ANA3 (in), 92 ANA4 (in), 93 ANA5 (in), 94 ANA6 (in), 95 ANA7 (in), 96 TEMP_SENSE (out), 97 VREFLO (power), 98 VREFN (power), 99 VREFMID (power), 100 VREFP (power), 101 VREFH (power), 104 ANB0 (in), 105 ANB1 (in), 106 ANB2 (in), 107 ANB3 (in), 108 ANB4 (in), 109 ANB5 (in), 110 ANB6 (in), 111 ANB7 (in), 112 EXTBOOT (in), 113 ISA0/GPIOC8 (io), 114 ISA1/GPIOC9 (io), 115 ISA2/GPIOC10 (io), 116 TD0/GPIOE10 (io), 117 TD1/GPIOE11 (io), 118 TC0/GPIOE8 (io), 120 ~{TRST} (in), 121 TCK (in), 122 TMS (in), 123 TDI (in), 124 TDO (out), 125 VPP1 (in), 126 CAN_TX (out), 127 CAN_RX (in), 129 ~{SS0}/GPIOE7 (io), 130 SCLK0/GPIOE4 (io), 131 MISO0/GPIOE6 (io), 132 MOSI0/GPIOE5 (io), 133 D11/GPIOF4 (io), 134 D12/GPIOF5 (io), 135 D13/GPIOF6 (io), 136 D14/GPIOF7 (io), 137 D15/GPIOF8 (io), 138 A0/GPIOA8 (io), 139 PHASEA0/TA0/GPIOC4 (io), 140 PHASEB0/TA1/GPIOC5 (io), 141 INDEX0/TA2/GPOPC6 (io), 142 HOME0/TA3/GPIOC7 (io), 143 EMI_MODE (in)
part B pins: 1 VDD_IO (power), 15 VCAP4 (power), 16 VDD_IO (power), 27 VSS (power), 31 VDD_IO (power), 37 VSS (power), 38 VDD_IO (power), 51 VCAP1 (power), 63 VSS (power), 66 VDD_IO (power), 69 VSS (power), 80 VDDA_OSC_PLL (power), 83 VCAP3 (power), 84 VDD_IO (power), 102 VDDA_ADC (power), 103 VSSA_ADC (power), 119 VDD_IO (power), 128 VCAP2 (power), 144 VSS (power)

## MC56F8366VFV60
designator U?
16-Bit Digital Signal Controller, 56800E Family,  60 MHz, 36KB RAM, 512KB Flash, 3.0–3.6 V, -40° to + 105° C, 144-Pin LQFP; DatasheetVersion: rev7, Nov-2009; PackageVersion: revG, Nov-2009; PackageReference: 918-03; PackageDescription: 144-Pin Thin Quad Flat Pack, 20 x 20 mm Body, 0.5 mm Pitch; ComponentLink1Description: Manufacturer URL; ComponentLink1URL: http://www.freescale.com/; ComponentLink2Description: Datasheet; ComponentLink2URL: http://cache.freescale.com/files/dsp/doc/data_sheet/MC56F8366.pdf?fpsp=1
footprint 918-03_N (Thin QFP, 144-Leads, Body 20x20mm, Pitch 0.5mm, IPC Medium Density)
footprint 918-03_L (Thin QFP, 144-Leads, Body 20x20mm, Pitch 0.5mm, IPC High Density)
footprint 918-03_M (Thin QFP, 144-Leads, Body 20x20mm, Pitch 0.5mm, IPC Low Density)
part A pins: 2 VPP2 (in), 3 CLKO (out), 4 TXD0/GPIOE0 (io), 5 RXD0/GPIOE1 (io), 6 PHASEA1/TB0/SCLK1/GPIOC0 (io), 7 PHASEB1/TB1/MOSI1/GPIOC1 (io), 8 INDEX1/TB2/MISO1/GPIOC2 (io), 9 HOME1/TB3/~{SS1}/GPIOC3 (io), 10 A1/GPIOA9 (io), 11 A2/GPIOA10 (io), 12 A3/GPIOA11 (io), 13 A4/GPIOA12 (io), 14 A5/GPIOA13 (io), 17 A6/GPIOE2 (io), 18 A7/GPIOE3 (io), 19 A8/GPIOA0 (io), 20 A9/GPIOA1 (io), 21 A10/GPIOA2 (io), 22 A11/GPIOA3 (io), 23 A12/GPIOA4 (io), 24 A13/GPIOA5 (io), 25 A14/GPIOA6 (io), 26 A15/GPIOA7 (io), 28 D7/GPIOF0 (io), 29 D8/GPIOF1 (io), 30 D9/GPIOF2 (io), 32 D10/GPIOF3 (io), 33 GPIOB0/A16 (io), 34 PWMB0 (out), 35 PWMB1 (out), 36 PWMB2 (out), 39 PWMB3 (out), 40 PWMB4 (out), 41 PWMB5 (out), 42 TXD1/GPIOD6 (io), 43 RXD1/GPIOD7 (io), 44 ~{WR} (out), 45 ~{RD} (out), 46 ~{PS}/~{CS0}/GPIOD8 (io), 47 ~{DS}/~{CS1}/GPIOD9 (io), 48 GPIOD0/~{CS2}/CAN2_TX (io), 49 GPIOD1/~{CS3}/CAN2_RX (io), 50 ISB0/GPIOD10 (io), 52 ISB1/GPIOD11 (io), 53 ISB2/GPIOD12 (io), 54 ~{IRQA} (in), 55 ~{IRQB} (in), 56 FAULTB0 (in), 57 FAULTB1 (in), 58 FAULTB2 (in), 59 D0/GPIOF9 (io), 60 D1/GPIOF10 (io), 61 FAULTB3 (in), 62 PWMA0 (out), 64 PWMA1 (out), 65 PWMA2 (out), 67 PWMA3 (out), 68 PWMA4 (out), 70 PWMA5 (out), 71 FAULTA0 (in), 72 D2/GPIOF11 (io), 73 FAULTA1 (in), 74 FAULTA2 (in), 75 D3/GPIOF12 (io), 76 D4/GPIOF13 (io), 77 D5/GPIOF14 (io), 78 D6/GPIOF15 (io), 79 OCR_DIS (in), 81 XTAL (io), 82 EXTAL (in), 85 ~{RSTO} (out), 86 ~{RESET} (in), 87 CLKMODE (in), 88 ANA0 (in), 89 ANA1 (in), 90 ANA2 (in), 91 ANA3 (in), 92 ANA4 (in), 93 ANA5 (in), 94 ANA6 (in), 95 ANA7 (in), 96 TEMP_SENSE (out), 97 VREFLO (power), 98 VREFN (power), 99 VREFMID (power), 100 VREFP (power), 101 VREFH (power), 104 ANB0 (in), 105 ANB1 (in), 106 ANB2 (in), 107 ANB3 (in), 108 ANB4 (in), 109 ANB5 (in), 110 ANB6 (in), 111 ANB7 (in), 112 EXTBOOT (in), 113 ISA0/GPIOC8 (io), 114 ISA1/GPIOC9 (io), 115 ISA2/GPIOC10 (io), 116 TD0/GPIOE10 (io), 117 TD1/GPIOE11 (io), 118 TC0/GPIOE8 (io), 120 ~{TRST} (in), 121 TCK (in), 122 TMS (in), 123 TDI (in), 124 TDO (out), 125 VPP1 (in), 126 CAN_TX (out), 127 CAN_RX (in), 129 ~{SS0}/GPIOE7 (io), 130 SCLK0/GPIOE4 (io), 131 MISO0/GPIOE6 (io), 132 MOSI0/GPIOE5 (io), 133 D11/GPIOF4 (io), 134 D12/GPIOF5 (io), 135 D13/GPIOF6 (io), 136 D14/GPIOF7 (io), 137 D15/GPIOF8 (io), 138 A0/GPIOA8 (io), 139 PHASEA0/TA0/GPIOC4 (io), 140 PHASEB0/TA1/GPIOC5 (io), 141 INDEX0/TA2/GPOPC6 (io), 142 HOME0/TA3/GPIOC7 (io), 143 EMI_MODE (in)
part B pins: 1 VDD_IO (power), 15 VCAP4 (power), 16 VDD_IO (power), 27 VSS (power), 31 VDD_IO (power), 37 VSS (power), 38 VDD_IO (power), 51 VCAP1 (power), 63 VSS (power), 66 VDD_IO (power), 69 VSS (power), 80 VDDA_OSC_PLL (power), 83 VCAP3 (power), 84 VDD_IO (power), 102 VDDA_ADC (power), 103 VSSA_ADC (power), 119 VDD_IO (power), 128 VCAP2 (power), 144 VSS (power)

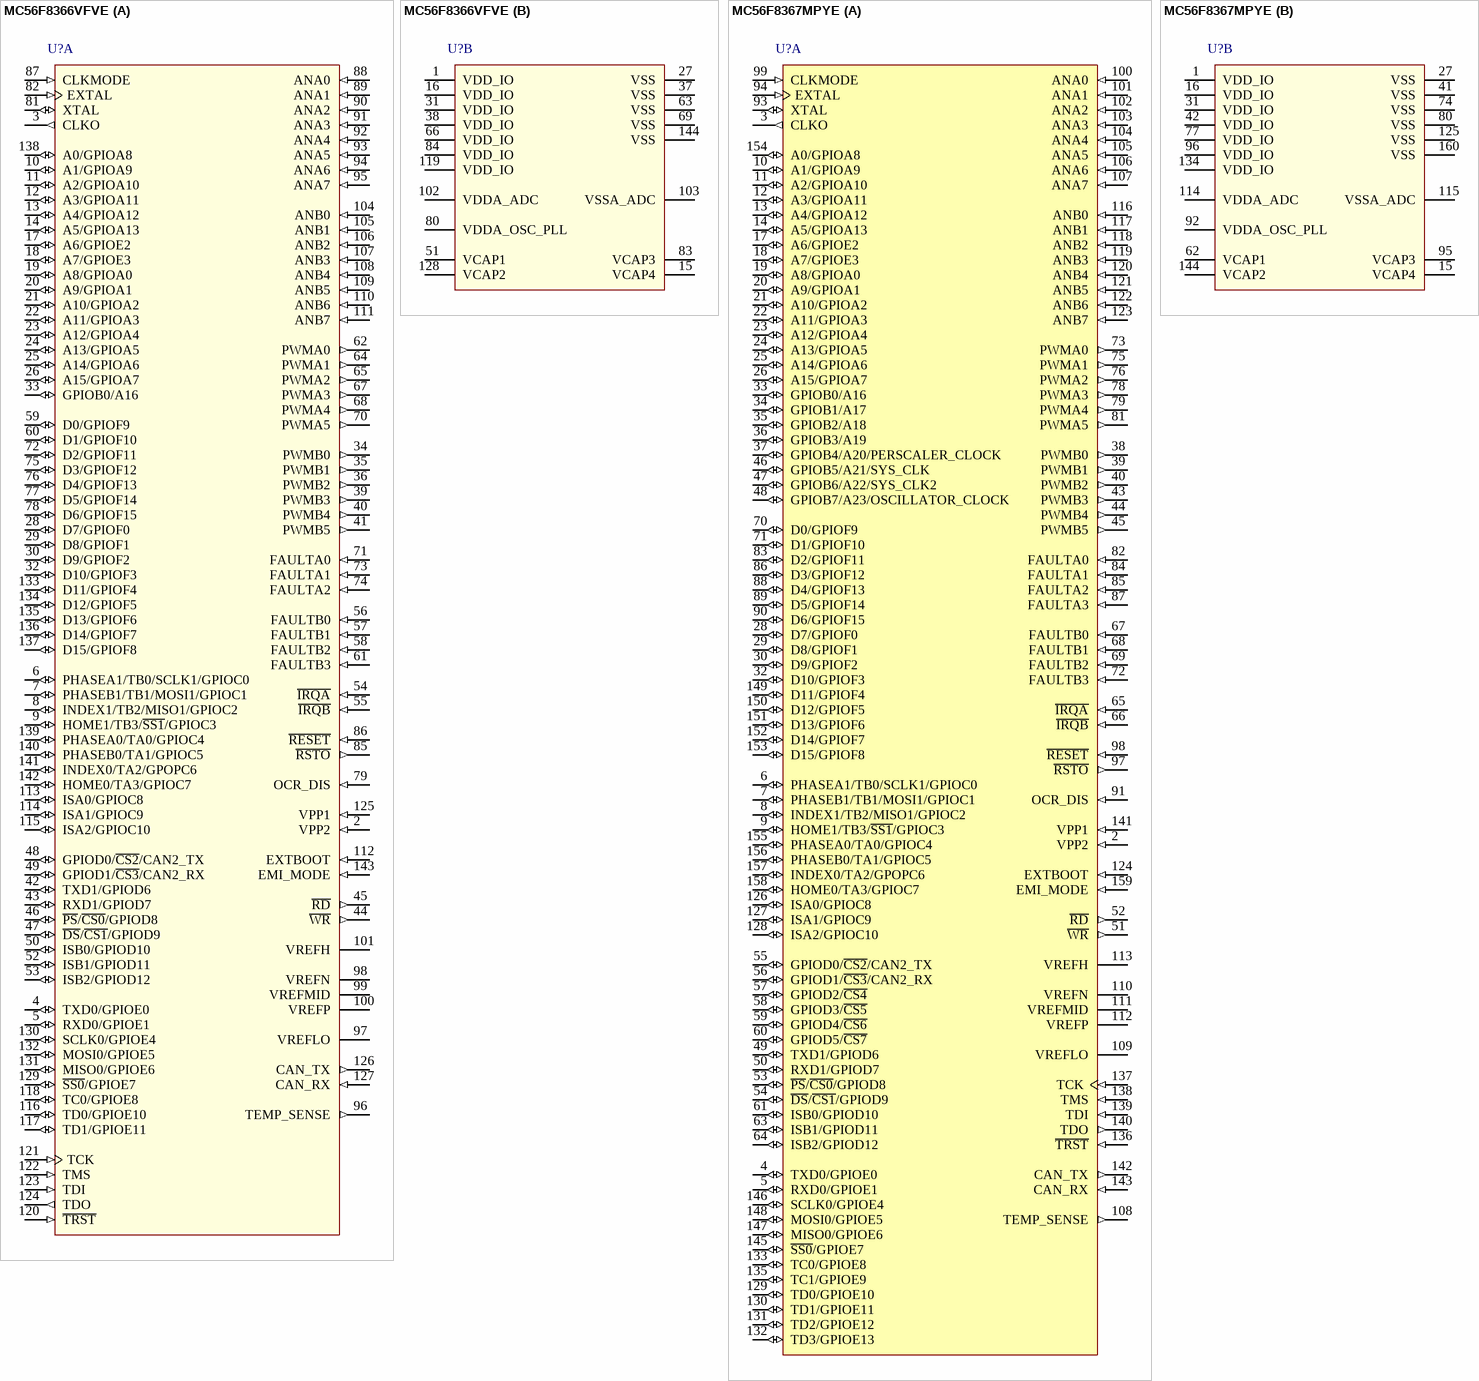
[diagram p32: symbols MC56F8366VFVE to MC56F8367MPYE]

## MC56F8366VFVE
designator U?
16-Bit Digital Signal Controller, 56800E Family,  60 MHz, 36KB RAM, 512KB Flash, 3.0–3.6 V, -40° to + 105° C, 144-Pin LQFP; DatasheetVersion: rev7, Nov-2009; PackageVersion: revG, Nov-2009; PackageReference: 918-03; PackageDescription: 144-Pin Thin Quad Flat Pack, 20 x 20 mm Body, 0.5 mm Pitch; ComponentLink1Description: Manufacturer URL; ComponentLink1URL: http://www.freescale.com/; ComponentLink2Description: Datasheet; ComponentLink2URL: http://cache.freescale.com/files/dsp/doc/data_sheet/MC56F8366.pdf?fpsp=1
footprint 918-03_N (Thin QFP, 144-Leads, Body 20x20mm, Pitch 0.5mm, IPC Medium Density)
footprint 918-03_L (Thin QFP, 144-Leads, Body 20x20mm, Pitch 0.5mm, IPC High Density)
footprint 918-03_M (Thin QFP, 144-Leads, Body 20x20mm, Pitch 0.5mm, IPC Low Density)
part A pins: 2 VPP2 (in), 3 CLKO (out), 4 TXD0/GPIOE0 (io), 5 RXD0/GPIOE1 (io), 6 PHASEA1/TB0/SCLK1/GPIOC0 (io), 7 PHASEB1/TB1/MOSI1/GPIOC1 (io), 8 INDEX1/TB2/MISO1/GPIOC2 (io), 9 HOME1/TB3/~{SS1}/GPIOC3 (io), 10 A1/GPIOA9 (io), 11 A2/GPIOA10 (io), 12 A3/GPIOA11 (io), 13 A4/GPIOA12 (io), 14 A5/GPIOA13 (io), 17 A6/GPIOE2 (io), 18 A7/GPIOE3 (io), 19 A8/GPIOA0 (io), 20 A9/GPIOA1 (io), 21 A10/GPIOA2 (io), 22 A11/GPIOA3 (io), 23 A12/GPIOA4 (io), 24 A13/GPIOA5 (io), 25 A14/GPIOA6 (io), 26 A15/GPIOA7 (io), 28 D7/GPIOF0 (io), 29 D8/GPIOF1 (io), 30 D9/GPIOF2 (io), 32 D10/GPIOF3 (io), 33 GPIOB0/A16 (io), 34 PWMB0 (out), 35 PWMB1 (out), 36 PWMB2 (out), 39 PWMB3 (out), 40 PWMB4 (out), 41 PWMB5 (out), 42 TXD1/GPIOD6 (io), 43 RXD1/GPIOD7 (io), 44 ~{WR} (out), 45 ~{RD} (out), 46 ~{PS}/~{CS0}/GPIOD8 (io), 47 ~{DS}/~{CS1}/GPIOD9 (io), 48 GPIOD0/~{CS2}/CAN2_TX (io), 49 GPIOD1/~{CS3}/CAN2_RX (io), 50 ISB0/GPIOD10 (io), 52 ISB1/GPIOD11 (io), 53 ISB2/GPIOD12 (io), 54 ~{IRQA} (in), 55 ~{IRQB} (in), 56 FAULTB0 (in), 57 FAULTB1 (in), 58 FAULTB2 (in), 59 D0/GPIOF9 (io), 60 D1/GPIOF10 (io), 61 FAULTB3 (in), 62 PWMA0 (out), 64 PWMA1 (out), 65 PWMA2 (out), 67 PWMA3 (out), 68 PWMA4 (out), 70 PWMA5 (out), 71 FAULTA0 (in), 72 D2/GPIOF11 (io), 73 FAULTA1 (in), 74 FAULTA2 (in), 75 D3/GPIOF12 (io), 76 D4/GPIOF13 (io), 77 D5/GPIOF14 (io), 78 D6/GPIOF15 (io), 79 OCR_DIS (in), 81 XTAL (io), 82 EXTAL (in), 85 ~{RSTO} (out), 86 ~{RESET} (in), 87 CLKMODE (in), 88 ANA0 (in), 89 ANA1 (in), 90 ANA2 (in), 91 ANA3 (in), 92 ANA4 (in), 93 ANA5 (in), 94 ANA6 (in), 95 ANA7 (in), 96 TEMP_SENSE (out), 97 VREFLO (power), 98 VREFN (power), 99 VREFMID (power), 100 VREFP (power), 101 VREFH (power), 104 ANB0 (in), 105 ANB1 (in), 106 ANB2 (in), 107 ANB3 (in), 108 ANB4 (in), 109 ANB5 (in), 110 ANB6 (in), 111 ANB7 (in), 112 EXTBOOT (in), 113 ISA0/GPIOC8 (io), 114 ISA1/GPIOC9 (io), 115 ISA2/GPIOC10 (io), 116 TD0/GPIOE10 (io), 117 TD1/GPIOE11 (io), 118 TC0/GPIOE8 (io), 120 ~{TRST} (in), 121 TCK (in), 122 TMS (in), 123 TDI (in), 124 TDO (out), 125 VPP1 (in), 126 CAN_TX (out), 127 CAN_RX (in), 129 ~{SS0}/GPIOE7 (io), 130 SCLK0/GPIOE4 (io), 131 MISO0/GPIOE6 (io), 132 MOSI0/GPIOE5 (io), 133 D11/GPIOF4 (io), 134 D12/GPIOF5 (io), 135 D13/GPIOF6 (io), 136 D14/GPIOF7 (io), 137 D15/GPIOF8 (io), 138 A0/GPIOA8 (io), 139 PHASEA0/TA0/GPIOC4 (io), 140 PHASEB0/TA1/GPIOC5 (io), 141 INDEX0/TA2/GPOPC6 (io), 142 HOME0/TA3/GPIOC7 (io), 143 EMI_MODE (in)
part B pins: 1 VDD_IO (power), 15 VCAP4 (power), 16 VDD_IO (power), 27 VSS (power), 31 VDD_IO (power), 37 VSS (power), 38 VDD_IO (power), 51 VCAP1 (power), 63 VSS (power), 66 VDD_IO (power), 69 VSS (power), 80 VDDA_OSC_PLL (power), 83 VCAP3 (power), 84 VDD_IO (power), 102 VDDA_ADC (power), 103 VSSA_ADC (power), 119 VDD_IO (power), 128 VCAP2 (power), 144 VSS (power)

## MC56F8367MPYE
designator U?
16-Bit Digital Signal Controller, 56800E Family,  60 MHz, 36KB RAM, 512KB Flash, 3.0–3.6 V, -40° to + 125° C, 160-Pin LQFP; DatasheetVersion: rev9, Nov-2009; PackageVersion: rev7, Jan-2002; PackageReference: 1259-01; PackageDescription: 160-Pin Thin Quad Flat Pack 0.5 mm Pitch; ComponentLink1Description: Manufacturer URL; ComponentLink1URL: http://www.freescale.com/; ComponentLink2Description: Datasheet; ComponentLink2URL: http://cache.freescale.com/files/dsp/doc/data_sheet/MC56F8367.pdf?fpsp=1
footprint 1259-01_N (Thin QFP, 160-Leads, Body 24x24mm, Pitch 0.5mm, IPC Medium Density)
footprint 1259-01_L (Thin QFP, 160-Leads, Body 24x24mm, Pitch 0.5mm, IPC High Density)
footprint 1259-01_M (Thin QFP, 160-Leads, Body 24x24mm, Pitch 0.5mm, IPC Low Density)
part A pins: 2 VPP2 (in), 3 CLKO (out), 4 TXD0/GPIOE0 (io), 5 RXD0/GPIOE1 (io), 6 PHASEA1/TB0/SCLK1/GPIOC0 (io), 7 PHASEB1/TB1/MOSI1/GPIOC1 (io), 8 INDEX1/TB2/MISO1/GPIOC2 (io), 9 HOME1/TB3/~{SS1}/GPIOC3 (io), 10 A1/GPIOA9 (io), 11 A2/GPIOA10 (io), 12 A3/GPIOA11 (io), 13 A4/GPIOA12 (io), 14 A5/GPIOA13 (io), 17 A6/GPIOE2 (io), 18 A7/GPIOE3 (io), 19 A8/GPIOA0 (io), 20 A9/GPIOA1 (io), 21 A10/GPIOA2 (io), 22 A11/GPIOA3 (io), 23 A12/GPIOA4 (io), 24 A13/GPIOA5 (io), 25 A14/GPIOA6 (io), 26 A15/GPIOA7 (io), 28 D7/GPIOF0 (io), 29 D8/GPIOF1 (io), 30 D9/GPIOF2 (io), 32 D10/GPIOF3 (io), 33 GPIOB0/A16 (io), 34 GPIOB1/A17 (io), 35 GPIOB2/A18 (io), 36 GPIOB3/A19 (io), 37 GPIOB4/A20/PERSCALER_CLOCK (io), 38 PWMB0 (out), 39 PWMB1 (out), 40 PWMB2 (out), 43 PWMB3 (out), 44 PWMB4 (out), 45 PWMB5 (out), 46 GPIOB5/A21/SYS_CLK (io), 47 GPIOB6/A22/SYS_CLK2 (io), 48 GPIOB7/A23/OSCILLATOR_CLOCK (io), 49 TXD1/GPIOD6 (io), 50 RXD1/GPIOD7 (io), 51 ~{WR} (out), 52 ~{RD} (out), 53 ~{PS}/~{CS0}/GPIOD8 (io), 54 ~{DS}/~{CS1}/GPIOD9 (io), 55 GPIOD0/~{CS2}/CAN2_TX (io), 56 GPIOD1/~{CS3}/CAN2_RX (io), 57 GPIOD2/~{CS4} (io), 58 GPIOD3/~{CS5} (io), 59 GPIOD4/~{CS6} (io), 60 GPIOD5/~{CS7} (io), 61 ISB0/GPIOD10 (io), 63 ISB1/GPIOD11 (io), 64 ISB2/GPIOD12 (io), 65 ~{IRQA} (in), 66 ~{IRQB} (in), 67 FAULTB0 (in), 68 FAULTB1 (in), 69 FAULTB2 (in), 70 D0/GPIOF9 (io), 71 D1/GPIOF10 (io), 72 FAULTB3 (in), 73 PWMA0 (out), 75 PWMA1 (out), 76 PWMA2 (out), 78 PWMA3 (out), 79 PWMA4 (out), 81 PWMA5 (out), 82 FAULTA0 (in), 83 D2/GPIOF11 (io), 84 FAULTA1 (in), 85 FAULTA2 (in), 86 D3/GPIOF12 (io), 87 FAULTA3 (in), 88 D4/GPIOF13 (io), 89 D5/GPIOF14 (io), 90 D6/GPIOF15 (io), 91 OCR_DIS (in), 93 XTAL (io), 94 EXTAL (in), 97 ~{RSTO} (out), 98 ~{RESET} (in), 99 CLKMODE (in), 100 ANA0 (in), 101 ANA1 (in), 102 ANA2 (in), 103 ANA3 (in), 104 ANA4 (in), 105 ANA5 (in), 106 ANA6 (in), 107 ANA7 (in), 108 TEMP_SENSE (out), 109 VREFLO (power), 110 VREFN (power), 111 VREFMID (power), 112 VREFP (power), 113 VREFH (power), 116 ANB0 (in), 117 ANB1 (in), 118 ANB2 (in), 119 ANB3 (in), 120 ANB4 (in), 121 ANB5 (in), 122 ANB6 (in), 123 ANB7 (in), 124 EXTBOOT (in), 126 ISA0/GPIOC8 (io), 127 ISA1/GPIOC9 (io), 128 ISA2/GPIOC10 (io), 129 TD0/GPIOE10 (io), 130 TD1/GPIOE11 (io), 131 TD2/GPIOE12 (io), 132 TD3/GPIOE13 (io), 133 TC0/GPIOE8 (io), 135 TC1/GPIOE9 (io), 136 ~{TRST} (in), 137 TCK (in), 138 TMS (in), 139 TDI (in), 140 TDO (out), 141 VPP1 (in), 142 CAN_TX (out), 143 CAN_RX (in), 145 ~{SS0}/GPIOE7 (io), 146 SCLK0/GPIOE4 (io), 147 MISO0/GPIOE6 (io), 148 MOSI0/GPIOE5 (io), 149 D11/GPIOF4 (io), 150 D12/GPIOF5 (io), 151 D13/GPIOF6 (io), 152 D14/GPIOF7 (io), 153 D15/GPIOF8 (io), 154 A0/GPIOA8 (io), 155 PHASEA0/TA0/GPIOC4 (io), 156 PHASEB0/TA1/GPIOC5 (io), 157 INDEX0/TA2/GPOPC6 (io), 158 HOME0/TA3/GPIOC7 (io), 159 EMI_MODE (in)
part B pins: 1 VDD_IO (power), 15 VCAP4 (power), 16 VDD_IO (power), 27 VSS (power), 31 VDD_IO (power), 41 VSS (power), 42 VDD_IO (power), 62 VCAP1 (power), 74 VSS (power), 77 VDD_IO (power), 80 VSS (power), 92 VDDA_OSC_PLL (power), 95 VCAP3 (power), 96 VDD_IO (power), 114 VDDA_ADC (power), 115 VSSA_ADC (power), 125 VSS (power), 134 VDD_IO (power), 144 VCAP2 (power), 160 VSS (power)

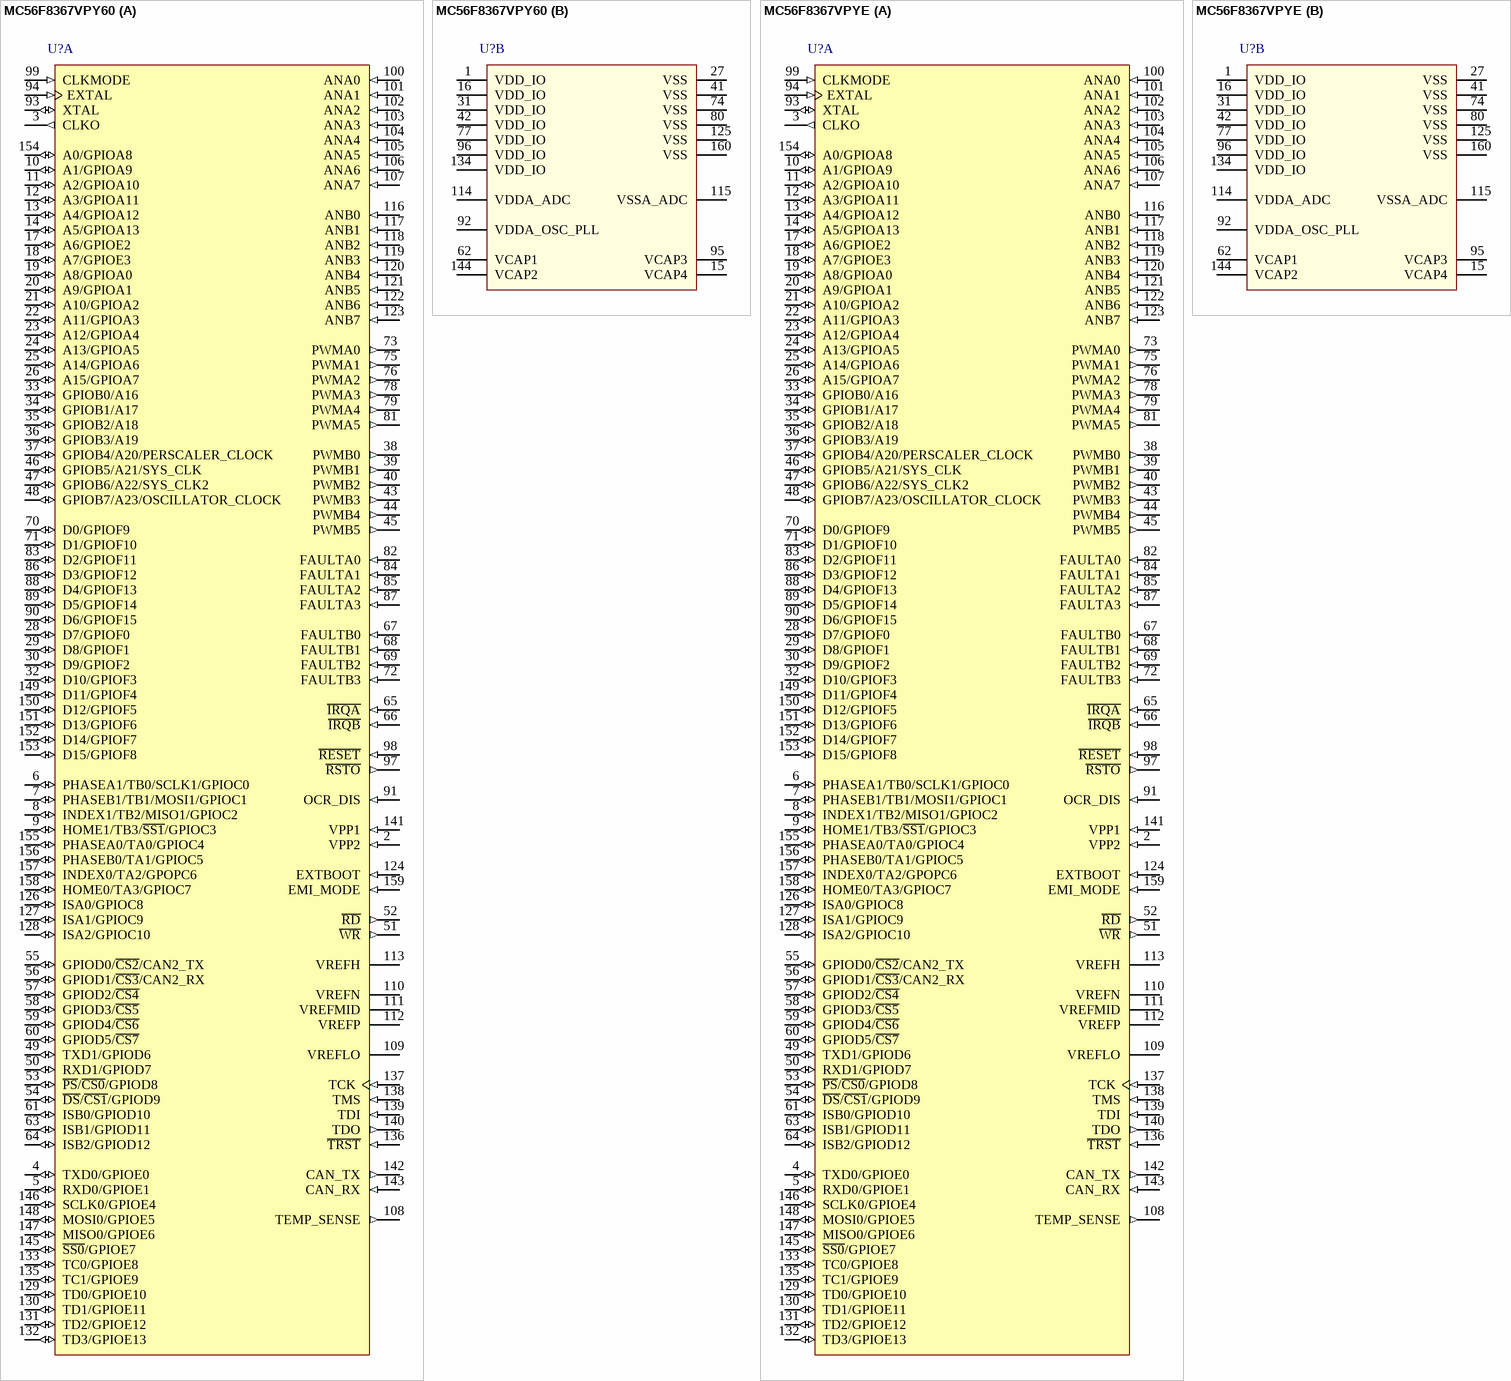
[diagram p33: symbols MC56F8367VPY60 to MC56F8367VPYE]

## MC56F8367VPY60
designator U?
16-Bit Digital Signal Controller, 56800E Family,  60 MHz, 36KB RAM, 512KB Flash, 3.0–3.6 V, -40° to + 105° C, 160-Pin LQFP; DatasheetVersion: rev9, Nov-2009; PackageVersion: rev7, Jan-2002; PackageReference: 1259-01; PackageDescription: 160-Pin Thin Quad Flat Pack 0.5 mm Pitch; ComponentLink1Description: Manufacturer URL; ComponentLink1URL: http://www.freescale.com/; ComponentLink2Description: Datasheet; ComponentLink2URL: http://cache.freescale.com/files/dsp/doc/data_sheet/MC56F8367.pdf?fpsp=1
footprint 1259-01_N (Thin QFP, 160-Leads, Body 24x24mm, Pitch 0.5mm, IPC Medium Density)
footprint 1259-01_L (Thin QFP, 160-Leads, Body 24x24mm, Pitch 0.5mm, IPC High Density)
footprint 1259-01_M (Thin QFP, 160-Leads, Body 24x24mm, Pitch 0.5mm, IPC Low Density)
part A pins: 2 VPP2 (in), 3 CLKO (out), 4 TXD0/GPIOE0 (io), 5 RXD0/GPIOE1 (io), 6 PHASEA1/TB0/SCLK1/GPIOC0 (io), 7 PHASEB1/TB1/MOSI1/GPIOC1 (io), 8 INDEX1/TB2/MISO1/GPIOC2 (io), 9 HOME1/TB3/~{SS1}/GPIOC3 (io), 10 A1/GPIOA9 (io), 11 A2/GPIOA10 (io), 12 A3/GPIOA11 (io), 13 A4/GPIOA12 (io), 14 A5/GPIOA13 (io), 17 A6/GPIOE2 (io), 18 A7/GPIOE3 (io), 19 A8/GPIOA0 (io), 20 A9/GPIOA1 (io), 21 A10/GPIOA2 (io), 22 A11/GPIOA3 (io), 23 A12/GPIOA4 (io), 24 A13/GPIOA5 (io), 25 A14/GPIOA6 (io), 26 A15/GPIOA7 (io), 28 D7/GPIOF0 (io), 29 D8/GPIOF1 (io), 30 D9/GPIOF2 (io), 32 D10/GPIOF3 (io), 33 GPIOB0/A16 (io), 34 GPIOB1/A17 (io), 35 GPIOB2/A18 (io), 36 GPIOB3/A19 (io), 37 GPIOB4/A20/PERSCALER_CLOCK (io), 38 PWMB0 (out), 39 PWMB1 (out), 40 PWMB2 (out), 43 PWMB3 (out), 44 PWMB4 (out), 45 PWMB5 (out), 46 GPIOB5/A21/SYS_CLK (io), 47 GPIOB6/A22/SYS_CLK2 (io), 48 GPIOB7/A23/OSCILLATOR_CLOCK (io), 49 TXD1/GPIOD6 (io), 50 RXD1/GPIOD7 (io), 51 ~{WR} (out), 52 ~{RD} (out), 53 ~{PS}/~{CS0}/GPIOD8 (io), 54 ~{DS}/~{CS1}/GPIOD9 (io), 55 GPIOD0/~{CS2}/CAN2_TX (io), 56 GPIOD1/~{CS3}/CAN2_RX (io), 57 GPIOD2/~{CS4} (io), 58 GPIOD3/~{CS5} (io), 59 GPIOD4/~{CS6} (io), 60 GPIOD5/~{CS7} (io), 61 ISB0/GPIOD10 (io), 63 ISB1/GPIOD11 (io), 64 ISB2/GPIOD12 (io), 65 ~{IRQA} (in), 66 ~{IRQB} (in), 67 FAULTB0 (in), 68 FAULTB1 (in), 69 FAULTB2 (in), 70 D0/GPIOF9 (io), 71 D1/GPIOF10 (io), 72 FAULTB3 (in), 73 PWMA0 (out), 75 PWMA1 (out), 76 PWMA2 (out), 78 PWMA3 (out), 79 PWMA4 (out), 81 PWMA5 (out), 82 FAULTA0 (in), 83 D2/GPIOF11 (io), 84 FAULTA1 (in), 85 FAULTA2 (in), 86 D3/GPIOF12 (io), 87 FAULTA3 (in), 88 D4/GPIOF13 (io), 89 D5/GPIOF14 (io), 90 D6/GPIOF15 (io), 91 OCR_DIS (in), 93 XTAL (io), 94 EXTAL (in), 97 ~{RSTO} (out), 98 ~{RESET} (in), 99 CLKMODE (in), 100 ANA0 (in), 101 ANA1 (in), 102 ANA2 (in), 103 ANA3 (in), 104 ANA4 (in), 105 ANA5 (in), 106 ANA6 (in), 107 ANA7 (in), 108 TEMP_SENSE (out), 109 VREFLO (power), 110 VREFN (power), 111 VREFMID (power), 112 VREFP (power), 113 VREFH (power), 116 ANB0 (in), 117 ANB1 (in), 118 ANB2 (in), 119 ANB3 (in), 120 ANB4 (in), 121 ANB5 (in), 122 ANB6 (in), 123 ANB7 (in), 124 EXTBOOT (in), 126 ISA0/GPIOC8 (io), 127 ISA1/GPIOC9 (io), 128 ISA2/GPIOC10 (io), 129 TD0/GPIOE10 (io), 130 TD1/GPIOE11 (io), 131 TD2/GPIOE12 (io), 132 TD3/GPIOE13 (io), 133 TC0/GPIOE8 (io), 135 TC1/GPIOE9 (io), 136 ~{TRST} (in), 137 TCK (in), 138 TMS (in), 139 TDI (in), 140 TDO (out), 141 VPP1 (in), 142 CAN_TX (out), 143 CAN_RX (in), 145 ~{SS0}/GPIOE7 (io), 146 SCLK0/GPIOE4 (io), 147 MISO0/GPIOE6 (io), 148 MOSI0/GPIOE5 (io), 149 D11/GPIOF4 (io), 150 D12/GPIOF5 (io), 151 D13/GPIOF6 (io), 152 D14/GPIOF7 (io), 153 D15/GPIOF8 (io), 154 A0/GPIOA8 (io), 155 PHASEA0/TA0/GPIOC4 (io), 156 PHASEB0/TA1/GPIOC5 (io), 157 INDEX0/TA2/GPOPC6 (io), 158 HOME0/TA3/GPIOC7 (io), 159 EMI_MODE (in)
part B pins: 1 VDD_IO (power), 15 VCAP4 (power), 16 VDD_IO (power), 27 VSS (power), 31 VDD_IO (power), 41 VSS (power), 42 VDD_IO (power), 62 VCAP1 (power), 74 VSS (power), 77 VDD_IO (power), 80 VSS (power), 92 VDDA_OSC_PLL (power), 95 VCAP3 (power), 96 VDD_IO (power), 114 VDDA_ADC (power), 115 VSSA_ADC (power), 125 VSS (power), 134 VDD_IO (power), 144 VCAP2 (power), 160 VSS (power)

## MC56F8367VPYE
designator U?
16-Bit Digital Signal Controller, 56800E Family,  60 MHz, 36KB RAM, 512KB Flash, 3.0–3.6 V, -40° to + 105° C, 160-Pin LQFP; DatasheetVersion: rev9, Nov-2009; PackageVersion: rev7, Jan-2002; PackageReference: 1259-01; PackageDescription: 160-Pin Thin Quad Flat Pack 0.5 mm Pitch; ComponentLink1Description: Manufacturer URL; ComponentLink1URL: http://www.freescale.com/; ComponentLink2Description: Datasheet; ComponentLink2URL: http://cache.freescale.com/files/dsp/doc/data_sheet/MC56F8367.pdf?fpsp=1
footprint 1259-01_N (Thin QFP, 160-Leads, Body 24x24mm, Pitch 0.5mm, IPC Medium Density)
footprint 1259-01_L (Thin QFP, 160-Leads, Body 24x24mm, Pitch 0.5mm, IPC High Density)
footprint 1259-01_M (Thin QFP, 160-Leads, Body 24x24mm, Pitch 0.5mm, IPC Low Density)
part A pins: 2 VPP2 (in), 3 CLKO (out), 4 TXD0/GPIOE0 (io), 5 RXD0/GPIOE1 (io), 6 PHASEA1/TB0/SCLK1/GPIOC0 (io), 7 PHASEB1/TB1/MOSI1/GPIOC1 (io), 8 INDEX1/TB2/MISO1/GPIOC2 (io), 9 HOME1/TB3/~{SS1}/GPIOC3 (io), 10 A1/GPIOA9 (io), 11 A2/GPIOA10 (io), 12 A3/GPIOA11 (io), 13 A4/GPIOA12 (io), 14 A5/GPIOA13 (io), 17 A6/GPIOE2 (io), 18 A7/GPIOE3 (io), 19 A8/GPIOA0 (io), 20 A9/GPIOA1 (io), 21 A10/GPIOA2 (io), 22 A11/GPIOA3 (io), 23 A12/GPIOA4 (io), 24 A13/GPIOA5 (io), 25 A14/GPIOA6 (io), 26 A15/GPIOA7 (io), 28 D7/GPIOF0 (io), 29 D8/GPIOF1 (io), 30 D9/GPIOF2 (io), 32 D10/GPIOF3 (io), 33 GPIOB0/A16 (io), 34 GPIOB1/A17 (io), 35 GPIOB2/A18 (io), 36 GPIOB3/A19 (io), 37 GPIOB4/A20/PERSCALER_CLOCK (io), 38 PWMB0 (out), 39 PWMB1 (out), 40 PWMB2 (out), 43 PWMB3 (out), 44 PWMB4 (out), 45 PWMB5 (out), 46 GPIOB5/A21/SYS_CLK (io), 47 GPIOB6/A22/SYS_CLK2 (io), 48 GPIOB7/A23/OSCILLATOR_CLOCK (io), 49 TXD1/GPIOD6 (io), 50 RXD1/GPIOD7 (io), 51 ~{WR} (out), 52 ~{RD} (out), 53 ~{PS}/~{CS0}/GPIOD8 (io), 54 ~{DS}/~{CS1}/GPIOD9 (io), 55 GPIOD0/~{CS2}/CAN2_TX (io), 56 GPIOD1/~{CS3}/CAN2_RX (io), 57 GPIOD2/~{CS4} (io), 58 GPIOD3/~{CS5} (io), 59 GPIOD4/~{CS6} (io), 60 GPIOD5/~{CS7} (io), 61 ISB0/GPIOD10 (io), 63 ISB1/GPIOD11 (io), 64 ISB2/GPIOD12 (io), 65 ~{IRQA} (in), 66 ~{IRQB} (in), 67 FAULTB0 (in), 68 FAULTB1 (in), 69 FAULTB2 (in), 70 D0/GPIOF9 (io), 71 D1/GPIOF10 (io), 72 FAULTB3 (in), 73 PWMA0 (out), 75 PWMA1 (out), 76 PWMA2 (out), 78 PWMA3 (out), 79 PWMA4 (out), 81 PWMA5 (out), 82 FAULTA0 (in), 83 D2/GPIOF11 (io), 84 FAULTA1 (in), 85 FAULTA2 (in), 86 D3/GPIOF12 (io), 87 FAULTA3 (in), 88 D4/GPIOF13 (io), 89 D5/GPIOF14 (io), 90 D6/GPIOF15 (io), 91 OCR_DIS (in), 93 XTAL (io), 94 EXTAL (in), 97 ~{RSTO} (out), 98 ~{RESET} (in), 99 CLKMODE (in), 100 ANA0 (in), 101 ANA1 (in), 102 ANA2 (in), 103 ANA3 (in), 104 ANA4 (in), 105 ANA5 (in), 106 ANA6 (in), 107 ANA7 (in), 108 TEMP_SENSE (out), 109 VREFLO (power), 110 VREFN (power), 111 VREFMID (power), 112 VREFP (power), 113 VREFH (power), 116 ANB0 (in), 117 ANB1 (in), 118 ANB2 (in), 119 ANB3 (in), 120 ANB4 (in), 121 ANB5 (in), 122 ANB6 (in), 123 ANB7 (in), 124 EXTBOOT (in), 126 ISA0/GPIOC8 (io), 127 ISA1/GPIOC9 (io), 128 ISA2/GPIOC10 (io), 129 TD0/GPIOE10 (io), 130 TD1/GPIOE11 (io), 131 TD2/GPIOE12 (io), 132 TD3/GPIOE13 (io), 133 TC0/GPIOE8 (io), 135 TC1/GPIOE9 (io), 136 ~{TRST} (in), 137 TCK (in), 138 TMS (in), 139 TDI (in), 140 TDO (out), 141 VPP1 (in), 142 CAN_TX (out), 143 CAN_RX (in), 145 ~{SS0}/GPIOE7 (io), 146 SCLK0/GPIOE4 (io), 147 MISO0/GPIOE6 (io), 148 MOSI0/GPIOE5 (io), 149 D11/GPIOF4 (io), 150 D12/GPIOF5 (io), 151 D13/GPIOF6 (io), 152 D14/GPIOF7 (io), 153 D15/GPIOF8 (io), 154 A0/GPIOA8 (io), 155 PHASEA0/TA0/GPIOC4 (io), 156 PHASEB0/TA1/GPIOC5 (io), 157 INDEX0/TA2/GPOPC6 (io), 158 HOME0/TA3/GPIOC7 (io), 159 EMI_MODE (in)
part B pins: 1 VDD_IO (power), 15 VCAP4 (power), 16 VDD_IO (power), 27 VSS (power), 31 VDD_IO (power), 41 VSS (power), 42 VDD_IO (power), 62 VCAP1 (power), 74 VSS (power), 77 VDD_IO (power), 80 VSS (power), 92 VDDA_OSC_PLL (power), 95 VCAP3 (power), 96 VDD_IO (power), 114 VDDA_ADC (power), 115 VSSA_ADC (power), 125 VSS (power), 134 VDD_IO (power), 144 VCAP2 (power), 160 VSS (power)

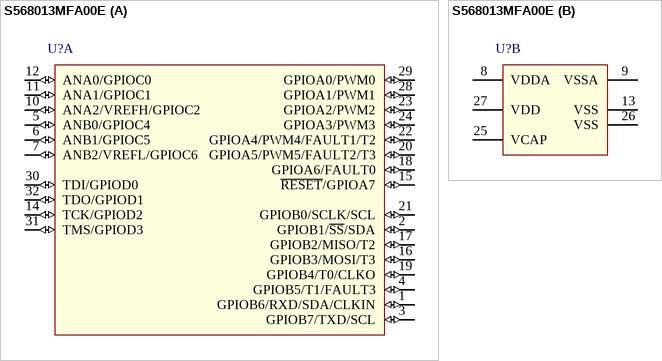
[diagram p34: symbol S568013MFA00E]

## S568013MFA00E
designator U?
16-Bit Digital Signal Controller, 56800E Family, 32MHz, 16KB Program Flash Memory, 4KB RAM, -40°C to 125°C, 32-Pin LQFP; DatasheetVersion: rev12, May-2008; PackageVersion: rev9, Jan-2007; PackageReference: 873A-03; PackageDescription: 32-Pin Thin Quad Flat Pack, 7 x 7 mm Body, 0.8 mm Pitch; ComponentLink1Description: Manufacturer URL; ComponentLink1URL: http://www.freescale.com/
footprint 873A-03_N (Thin QFP, 32-Leads, Body 7x7mm, Pitch 0.8mm, IPC Medium Density)
footprint 873A-03_L (Thin QFP, 32-Leads, Body 7x7mm, Pitch 0.8mm, IPC High Density)
footprint 873A-03_M (Thin QFP, 32-Leads, Body 7x7mm, Pitch 0.8mm, IPC Low Density)
part A pins: 1 GPIOB6/RXD/SDA/CLKIN (io), 2 GPIOB1/~{SS}/SDA (io), 3 GPIOB7/TXD/SCL (io), 4 GPIOB5/T1/FAULT3 (io), 5 ANB0/GPIOC4 (io), 6 ANB1/GPIOC5 (io), 7 ANB2/VREFL/GPIOC6 (io), 10 ANA2/VREFH/GPIOC2 (io), 11 ANA1/GPIOC1 (io), 12 ANA0/GPIOC0 (io), 14 TCK/GPIOD2 (io), 15 ~{RESET}/GPIOA7 (io), 16 GPIOB3/MOSI/T3 (io), 17 GPIOB2/MISO/T2 (io), 18 GPIOA6/FAULT0 (io), 19 GPIOB4/T0/CLKO (io), 20 GPIOA5/PWM5/FAULT2/T3 (io), 21 GPIOB0/SCLK/SCL (io), 22 GPIOA4/PWM4/FAULT1/T2 (io), 23 GPIOA2/PWM2 (io), 24 GPIOA3/PWM3 (io), 28 GPIOA1/PWM1 (io), 29 GPIOA0/PWM0 (io), 30 TDI/GPIOD0 (io), 31 TMS/GPIOD3 (io), 32 TDO/GPIOD1 (io)
part B pins: 8 VDDA (power), 9 VSSA (power), 13 VSS (power), 25 VCAP (power), 26 VSS (power), 27 VDD (power)